# Altium integrated library Renesas Microcontroller H8S.IntLib: 670 symbols (part 21 of 70)
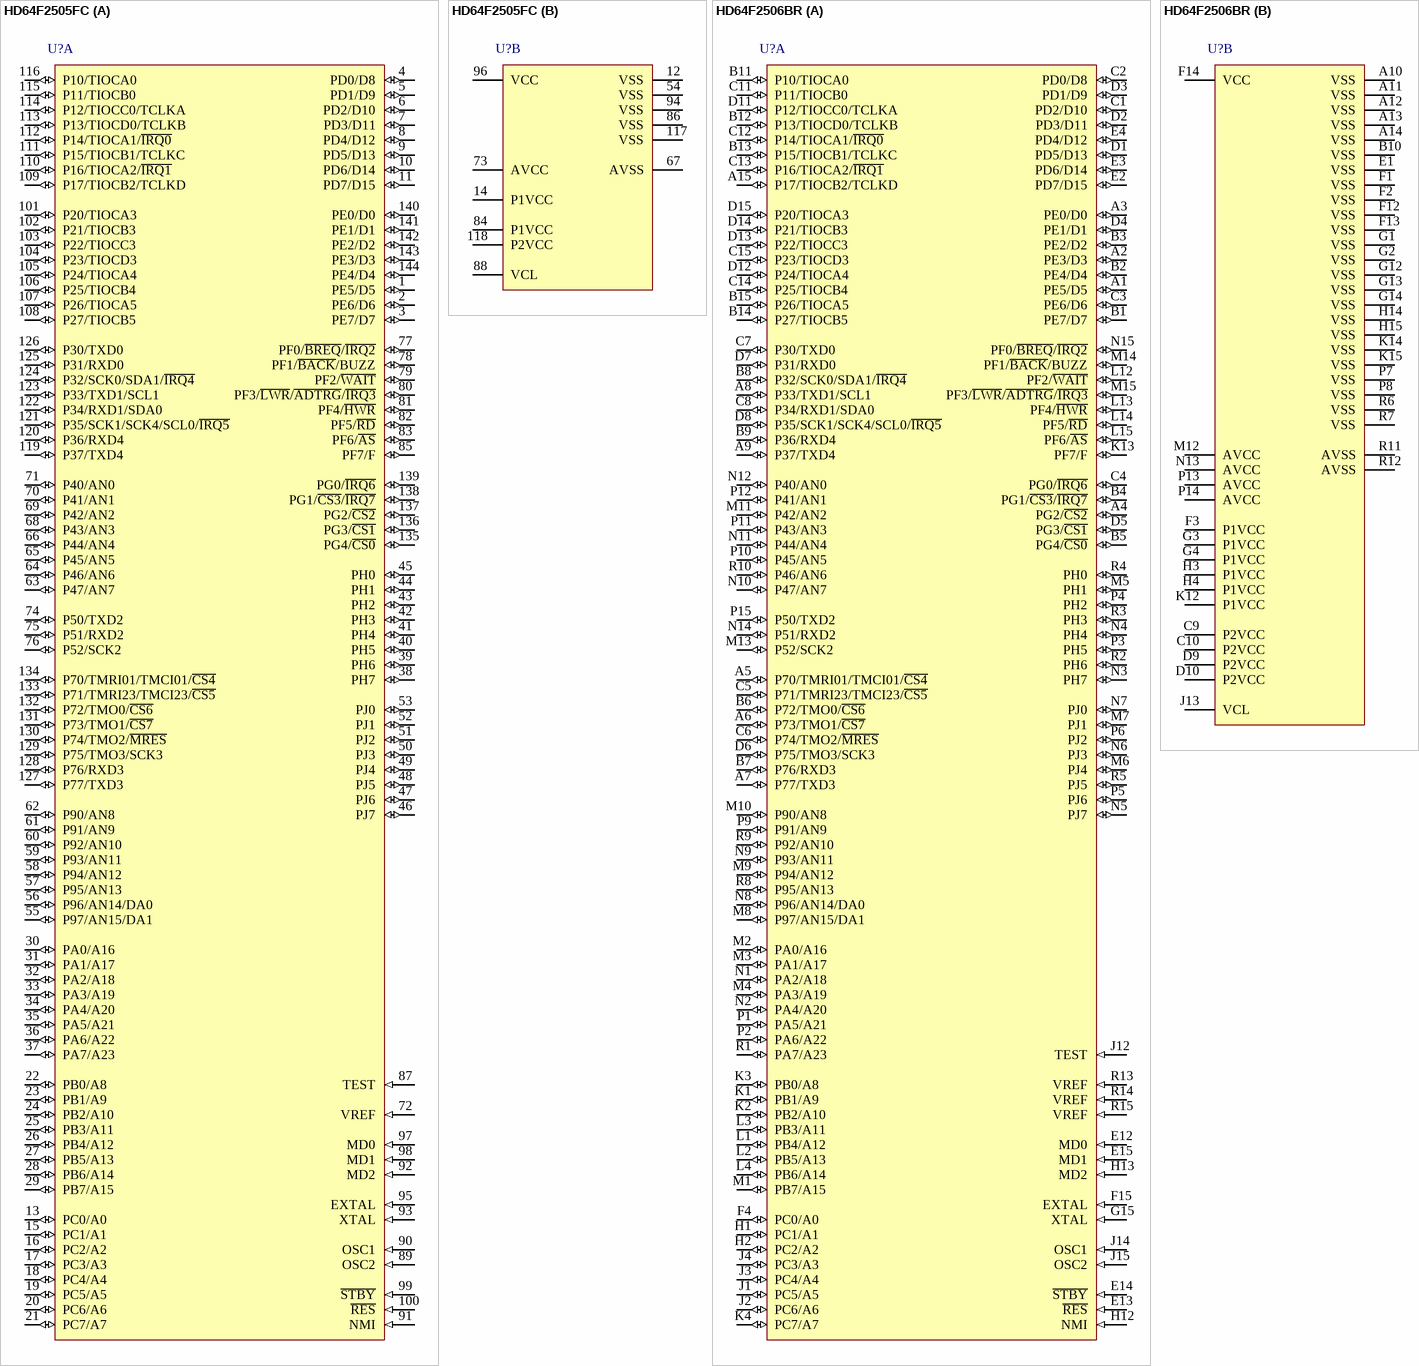
[diagram p255: symbols HD64F2505FC to HD64F2506BR]

## HD64F2505FC
designator U?
Flash memory H8S/2500 Series, 2506 Group MCU, 384K ROM, 32K RAM, FP-144J Pkg; Published: 28-Aug-2009; DatasheetVersion: Rev.6.00, Sep-2009; PackageVersion: Sep-2005; PackageReference: PRQP0144KB-A; Publisher: Altium Limited; PackageDescription: 144-Pin Plastic Quad Flat Pack, 20 x 20 x 2.7 mm Body, 0.5 mm Pitch; Code_JEITA: P-QFP144-20x20-0.50; ComponentLink1Description: Manufacturer Link; ComponentLink1URL: http://sg.renesas.com/fmwk.jsp?cnt=h8s_family_landing.jsp&fp=/products/mpumcu/h8s_family/; ComponentLink2Description: Datasheet; ComponentLink2URL: http://documentation.renesas.com/eng/products/mpumcu/rej09b0099_h8s2556.pdf; ComponentLink3Description: Packaging Specification; ComponentLink3URL: http://sg.renesas.com/media/products/common_info/package/pdf/ic/code/prqp0144kb_a.pdf
footprint PRQP0144KB-A_N (Shrink QFP, 144-Leads, Body 20x20mm, Pitch 0.5mm, IPC Medium Density)
footprint PRQP0144KB-A_L (Shrink QFP, 144-Leads, Body 20x20mm, Pitch 0.5mm, IPC High Density)
footprint PRQP0144KB-A_M (Shrink QFP, 144-Leads, Body 20x20mm, Pitch 0.5mm, IPC Low Density)
part A pins: 1 PE5/D5 (io), 2 PE6/D6 (io), 3 PE7/D7 (io), 4 PD0/D8 (io), 5 PD1/D9 (io), 6 PD2/D10 (io), 7 PD3/D11 (io), 8 PD4/D12 (io), 9 PD5/D13 (io), 10 PD6/D14 (io), 11 PD7/D15 (io), 13 PC0/A0 (io), 15 PC1/A1 (io), 16 PC2/A2 (io), 17 PC3/A3 (io), 18 PC4/A4 (io), 19 PC5/A5 (io), 20 PC6/A6 (io), 21 PC7/A7 (io), 22 PB0/A8 (io), 23 PB1/A9 (io), 24 PB2/A10 (io), 25 PB3/A11 (io), 26 PB4/A12 (io), 27 PB5/A13 (io), 28 PB6/A14 (io), 29 PB7/A15 (io), 30 PA0/A16 (io), 31 PA1/A17 (io), 32 PA2/A18 (io), 33 PA3/A19 (io), 34 PA4/A20 (io), 35 PA5/A21 (io), 36 PA6/A22 (io), 37 PA7/A23 (io), 38 PH7 (io), 39 PH6 (io), 40 PH5 (io), 41 PH4 (io), 42 PH3 (io), 43 PH2 (io), 44 PH1 (io), 45 PH0 (io), 46 PJ7 (io), 47 PJ6 (io), 48 PJ5 (io), 49 PJ4 (io), 50 PJ3 (io), 51 PJ2 (io), 52 PJ1 (io), 53 PJ0 (io), 55 P97/AN15/DA1 (io), 56 P96/AN14/DA0 (io), 57 P95/AN13 (io), 58 P94/AN12 (io), 59 P93/AN11 (io), 60 P92/AN10 (io), 61 P91/AN9 (io), 62 P90/AN8 (io), 63 P47/AN7 (io), 64 P46/AN6 (io), 65 P45/AN5 (io), 66 P44/AN4 (io), 68 P43/AN3 (io), 69 P42/AN2 (io), 70 P41/AN1 (io), 71 P40/AN0 (io), 72 VREF (in), 74 P50/TXD2 (io), 75 P51/RXD2 (io), 76 P52/SCK2 (io), 77 PF0/~{BREQ}/~{IRQ2} (io), 78 PF1/~{BACK}/BUZZ (io), 79 PF2/~{WAIT} (io), 80 PF3/~{LWR}/~{ADTRG}/~{IRQ3} (io), 81 PF4/~{HWR} (io), 82 PF5/~{RD} (io), 83 PF6/~{AS} (io), 85 PF7/F (io), 87 TEST (in), 89 OSC2 (in), 90 OSC1 (in), 91 NMI (in), 92 MD2 (in), 93 XTAL (in), 95 EXTAL (in), 97 MD0 (in), 98 MD1 (in), 99 ~{STBY} (in), 100 ~{RES} (in), 101 P20/TIOCA3 (io), 102 P21/TIOCB3 (io), 103 P22/TIOCC3 (io), 104 P23/TIOCD3 (io), 105 P24/TIOCA4 (io), 106 P25/TIOCB4 (io), 107 P26/TIOCA5 (io), 108 P27/TIOCB5 (io), 109 P17/TIOCB2/TCLKD (io), 110 P16/TIOCA2/~{IRQ1} (io), 111 P15/TIOCB1/TCLKC (io), 112 P14/TIOCA1/~{IRQ0} (io), 113 P13/TIOCD0/TCLKB (io), 114 P12/TIOCC0/TCLKA (io), 115 P11/TIOCB0 (io), 116 P10/TIOCA0 (io), 119 P37/TXD4 (io), 120 P36/RXD4 (io), 121 P35/SCK1/SCK4/SCL0/~{IRQ5} (io), 122 P34/RXD1/SDA0 (io), 123 P33/TXD1/SCL1 (io), 124 P32/SCK0/SDA1/~{IRQ4} (io), 125 P31/RXD0 (io), 126 P30/TXD0 (io), 127 P77/TXD3 (io), 128 P76/RXD3 (io), 129 P75/TMO3/SCK3 (io), 130 P74/TMO2/~{MRES} (io), 131 P73/TMO1/~{CS7} (io), 132 P72/TMO0/~{CS6} (io), 133 P71/TMRI23/TMCI23/~{CS5} (io), 134 P70/TMRI01/TMCI01/~{CS4} (io), 135 PG4/~{CS0} (io), 136 PG3/~{CS1} (io), 137 PG2/~{CS2} (io), 138 PG1/~{CS3}/~{IRQ7} (io), 139 PG0/~{IRQ6} (io), 140 PE0/D0 (io), 141 PE1/D1 (io), 142 PE2/D2 (io), 143 PE3/D3 (io), 144 PE4/D4 (io)
part B pins: 12 VSS (power), 14 P1VCC (power), 54 VSS (power), 67 AVSS (power), 73 AVCC (power), 84 P1VCC (power), 86 VSS (power), 88 VCL, 94 VSS (power), 96 VCC (power), 117 VSS (power), 118 P2VCC (power)

## HD64F2506BR
designator U?
Flash memory H8S/2500 Series, 2506 Group MCU, 512K ROM, 32K RAM, BP-176V Pkg; Published: 28-Aug-2009; DatasheetVersion: Rev.6.00, Sep-2009; PackageVersion: Apr-2006; PackageReference: PLBG0176GA-A; Publisher: Altium Limited; PackageDescription: 176-Ball Plastic Low Profile Fine-Pitch BGA, 13 x 13 mm Body, 0.8 mm Pitch; Code_JEITA: P-LFBGA176-13x13-0.80; ComponentLink1Description: Manufacturer Link; ComponentLink1URL: http://sg.renesas.com/fmwk.jsp?cnt=h8s_family_landing.jsp&fp=/products/mpumcu/h8s_family/; ComponentLink2Description: Datasheet; ComponentLink2URL: http://documentation.renesas.com/eng/products/mpumcu/rej09b0099_h8s2556.pdf; ComponentLink3Description: Packaging Specification; ComponentLink3URL: http://sg.renesas.com/media/products/common_info/package/pdf/ic/code/plbg0176ga_a.pdf
footprint PLBG0176GA-A (BGA, 176-Leads, Body 13x13mm, Pitch 0.8mm)
part A pins: A1 PE5/D5 (io), A2 PE3/D3 (io), A3 PE0/D0 (io), A4 PG2/~{CS2} (io), A5 P70/TMRI01/TMCI01/~{CS4} (io), A6 P73/TMO1/~{CS7} (io), A7 P77/TXD3 (io), A8 P33/TXD1/SCL1 (io), A9 P37/TXD4 (io), A15 P17/TIOCB2/TCLKD (io), B1 PE7/D7 (io), B2 PE4/D4 (io), B3 PE2/D2 (io), B4 PG1/~{CS3}/~{IRQ7} (io), B5 PG4/~{CS0} (io), B6 P72/TMO0/~{CS6} (io), B7 P76/RXD3 (io), B8 P32/SCK0/SDA1/~{IRQ4} (io), B9 P36/RXD4 (io), B11 P10/TIOCA0 (io), B12 P13/TIOCD0/TCLKB (io), B13 P15/TIOCB1/TCLKC (io), B14 P27/TIOCB5 (io), B15 P26/TIOCA5 (io), C1 PD2/D10 (io), C2 PD0/D8 (io), C3 PE6/D6 (io), C4 PG0/~{IRQ6} (io), C5 P71/TMRI23/TMCI23/~{CS5} (io), C6 P74/TMO2/~{MRES} (io), C7 P30/TXD0 (io), C8 P34/RXD1/SDA0 (io), C11 P11/TIOCB0 (io), C12 P14/TIOCA1/~{IRQ0} (io), C13 P16/TIOCA2/~{IRQ1} (io), C14 P25/TIOCB4 (io), C15 P23/TIOCD3 (io), D1 PD5/D13 (io), D2 PD3/D11 (io), D3 PD1/D9 (io), D4 PE1/D1 (io), D5 PG3/~{CS1} (io), D6 P75/TMO3/SCK3 (io), D7 P31/RXD0 (io), D8 P35/SCK1/SCK4/SCL0/~{IRQ5} (io), D11 P12/TIOCC0/TCLKA (io), D12 P24/TIOCA4 (io), D13 P22/TIOCC3 (io), D14 P21/TIOCB3 (io), D15 P20/TIOCA3 (io), E2 PD7/D15 (io), E3 PD6/D14 (io), E4 PD4/D12 (io), E12 MD0 (in), E13 ~{RES} (in), E14 ~{STBY} (in), E15 MD1 (in), F4 PC0/A0 (io), F15 EXTAL (in), G15 XTAL (in), H1 PC1/A1 (io), H2 PC2/A2 (io), H12 NMI (in), H13 MD2 (in), J1 PC5/A5 (io), J2 PC6/A6 (io), J3 PC4/A4 (io), J4 PC3/A3 (io), J12 TEST (in), J14 OSC1 (in), J15 OSC2 (in), K1 PB1/A9 (io), K2 PB2/A10 (io), K3 PB0/A8 (io), K4 PC7/A7 (io), K13 PF7/F (io), L1 PB4/A12 (io), L2 PB5/A13 (io), L3 PB3/A11 (io), L4 PB6/A14 (io), L12 PF2/~{WAIT} (io), L13 PF4/~{HWR} (io), L14 PF5/~{RD} (io), L15 PF6/~{AS} (io), M1 PB7/A15 (io), M2 PA0/A16 (io), M3 PA1/A17 (io), M4 PA3/A19 (io), M5 PH1 (io), M6 PJ4 (io), M7 PJ1 (io), M8 P97/AN15/DA1 (io), M9 P94/AN12 (io), M10 P90/AN8 (io), M11 P42/AN2 (io), M13 P52/SCK2 (io), M14 PF1/~{BACK}/BUZZ (io), M15 PF3/~{LWR}/~{ADTRG}/~{IRQ3} (io), N1 PA2/A18 (io), N2 PA4/A20 (io), N3 PH7 (io), N4 PH4 (io), N5 PJ7 (io), N6 PJ3 (io), N7 PJ0 (io), N8 P96/AN14/DA0 (io), N9 P93/AN11 (io), N10 P47/AN7 (io), N11 P44/AN4 (io), N12 P40/AN0 (io), N14 P51/RXD2 (io), N15 PF0/~{BREQ}/~{IRQ2} (io), P1 PA5/A21 (io), P2 PA6/A22 (io), P3 PH5 (io), P4 PH2 (io), P5 PJ6 (io), P6 PJ2 (io), P9 P91/AN9 (io), P10 P45/AN5 (io), P11 P43/AN3 (io), P12 P41/AN1 (io), P15 P50/TXD2 (io), R1 PA7/A23 (io), R2 PH6 (io), R3 PH3 (io), R4 PH0 (io), R5 PJ5 (io), R8 P95/AN13 (io), R9 P92/AN10 (io), R10 P46/AN6 (io), R13 VREF (in), R14 VREF (in), R15 VREF (in)
part B pins: A10 VSS (power), A11 VSS (power), A12 VSS (power), A13 VSS (power), A14 VSS (power), B10 VSS (power), C9 P2VCC (power), C10 P2VCC (power), D9 P2VCC (power), D10 P2VCC (power), E1 VSS (power), F1 VSS (power), F2 VSS (power), F3 P1VCC (power), F12 VSS (power), F13 VSS (power), F14 VCC (power), G1 VSS (power), G2 VSS (power), G3 P1VCC (power), G4 P1VCC (power), G12 VSS (power), G13 VSS (power), G14 VSS (power), H3 P1VCC (power), H4 P1VCC (power), H14 VSS (power), H15 VSS (power), J13 VCL, K12 P1VCC (power), K14 VSS (power), K15 VSS (power), M12 AVCC (power), N13 AVCC (power), P7 VSS (power), P8 VSS (power), P13 AVCC (power), P14 AVCC (power), R6 VSS (power), R7 VSS (power), R11 AVSS (power), R12 AVSS (power)

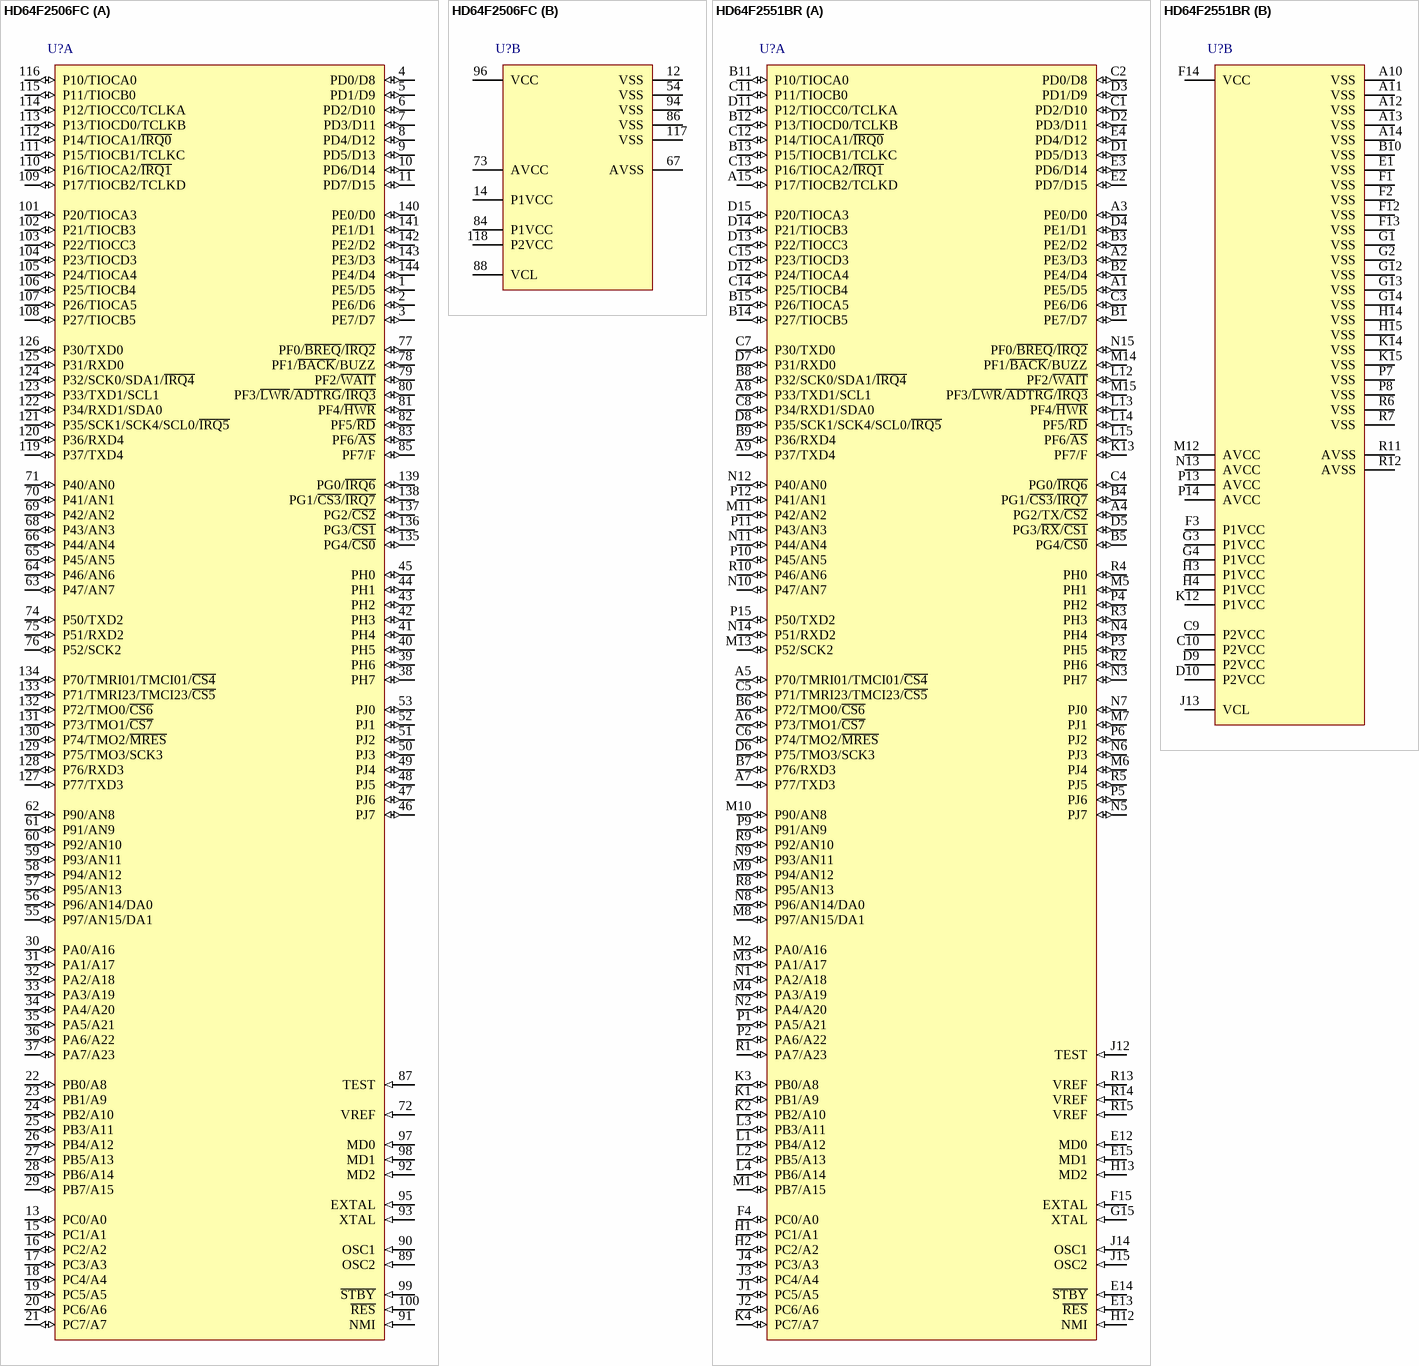
[diagram p72: symbols HD64F2506FC to HD64F2551BR]

## HD64F2506FC
designator U?
Flash memory H8S/2500 Series, 2506 Group MCU, 512K ROM, 32K RAM, FP-144J Pkg; Published: 28-Aug-2009; DatasheetVersion: Rev.6.00, Sep-2009; PackageVersion: Sep-2005; PackageReference: PRQP0144KB-A; Publisher: Altium Limited; PackageDescription: 144-Pin Plastic Quad Flat Pack, 20 x 20 x 2.7 mm Body, 0.5 mm Pitch; Code_JEITA: P-QFP144-20x20-0.50; ComponentLink1Description: Manufacturer Link; ComponentLink1URL: http://sg.renesas.com/fmwk.jsp?cnt=h8s_family_landing.jsp&fp=/products/mpumcu/h8s_family/; ComponentLink2Description: Datasheet; ComponentLink2URL: http://documentation.renesas.com/eng/products/mpumcu/rej09b0099_h8s2556.pdf; ComponentLink3Description: Packaging Specification; ComponentLink3URL: http://sg.renesas.com/media/products/common_info/package/pdf/ic/code/prqp0144kb_a.pdf
footprint PRQP0144KB-A_N (Shrink QFP, 144-Leads, Body 20x20mm, Pitch 0.5mm, IPC Medium Density)
footprint PRQP0144KB-A_L (Shrink QFP, 144-Leads, Body 20x20mm, Pitch 0.5mm, IPC High Density)
footprint PRQP0144KB-A_M (Shrink QFP, 144-Leads, Body 20x20mm, Pitch 0.5mm, IPC Low Density)
part A pins: 1 PE5/D5 (io), 2 PE6/D6 (io), 3 PE7/D7 (io), 4 PD0/D8 (io), 5 PD1/D9 (io), 6 PD2/D10 (io), 7 PD3/D11 (io), 8 PD4/D12 (io), 9 PD5/D13 (io), 10 PD6/D14 (io), 11 PD7/D15 (io), 13 PC0/A0 (io), 15 PC1/A1 (io), 16 PC2/A2 (io), 17 PC3/A3 (io), 18 PC4/A4 (io), 19 PC5/A5 (io), 20 PC6/A6 (io), 21 PC7/A7 (io), 22 PB0/A8 (io), 23 PB1/A9 (io), 24 PB2/A10 (io), 25 PB3/A11 (io), 26 PB4/A12 (io), 27 PB5/A13 (io), 28 PB6/A14 (io), 29 PB7/A15 (io), 30 PA0/A16 (io), 31 PA1/A17 (io), 32 PA2/A18 (io), 33 PA3/A19 (io), 34 PA4/A20 (io), 35 PA5/A21 (io), 36 PA6/A22 (io), 37 PA7/A23 (io), 38 PH7 (io), 39 PH6 (io), 40 PH5 (io), 41 PH4 (io), 42 PH3 (io), 43 PH2 (io), 44 PH1 (io), 45 PH0 (io), 46 PJ7 (io), 47 PJ6 (io), 48 PJ5 (io), 49 PJ4 (io), 50 PJ3 (io), 51 PJ2 (io), 52 PJ1 (io), 53 PJ0 (io), 55 P97/AN15/DA1 (io), 56 P96/AN14/DA0 (io), 57 P95/AN13 (io), 58 P94/AN12 (io), 59 P93/AN11 (io), 60 P92/AN10 (io), 61 P91/AN9 (io), 62 P90/AN8 (io), 63 P47/AN7 (io), 64 P46/AN6 (io), 65 P45/AN5 (io), 66 P44/AN4 (io), 68 P43/AN3 (io), 69 P42/AN2 (io), 70 P41/AN1 (io), 71 P40/AN0 (io), 72 VREF (in), 74 P50/TXD2 (io), 75 P51/RXD2 (io), 76 P52/SCK2 (io), 77 PF0/~{BREQ}/~{IRQ2} (io), 78 PF1/~{BACK}/BUZZ (io), 79 PF2/~{WAIT} (io), 80 PF3/~{LWR}/~{ADTRG}/~{IRQ3} (io), 81 PF4/~{HWR} (io), 82 PF5/~{RD} (io), 83 PF6/~{AS} (io), 85 PF7/F (io), 87 TEST (in), 89 OSC2 (in), 90 OSC1 (in), 91 NMI (in), 92 MD2 (in), 93 XTAL (in), 95 EXTAL (in), 97 MD0 (in), 98 MD1 (in), 99 ~{STBY} (in), 100 ~{RES} (in), 101 P20/TIOCA3 (io), 102 P21/TIOCB3 (io), 103 P22/TIOCC3 (io), 104 P23/TIOCD3 (io), 105 P24/TIOCA4 (io), 106 P25/TIOCB4 (io), 107 P26/TIOCA5 (io), 108 P27/TIOCB5 (io), 109 P17/TIOCB2/TCLKD (io), 110 P16/TIOCA2/~{IRQ1} (io), 111 P15/TIOCB1/TCLKC (io), 112 P14/TIOCA1/~{IRQ0} (io), 113 P13/TIOCD0/TCLKB (io), 114 P12/TIOCC0/TCLKA (io), 115 P11/TIOCB0 (io), 116 P10/TIOCA0 (io), 119 P37/TXD4 (io), 120 P36/RXD4 (io), 121 P35/SCK1/SCK4/SCL0/~{IRQ5} (io), 122 P34/RXD1/SDA0 (io), 123 P33/TXD1/SCL1 (io), 124 P32/SCK0/SDA1/~{IRQ4} (io), 125 P31/RXD0 (io), 126 P30/TXD0 (io), 127 P77/TXD3 (io), 128 P76/RXD3 (io), 129 P75/TMO3/SCK3 (io), 130 P74/TMO2/~{MRES} (io), 131 P73/TMO1/~{CS7} (io), 132 P72/TMO0/~{CS6} (io), 133 P71/TMRI23/TMCI23/~{CS5} (io), 134 P70/TMRI01/TMCI01/~{CS4} (io), 135 PG4/~{CS0} (io), 136 PG3/~{CS1} (io), 137 PG2/~{CS2} (io), 138 PG1/~{CS3}/~{IRQ7} (io), 139 PG0/~{IRQ6} (io), 140 PE0/D0 (io), 141 PE1/D1 (io), 142 PE2/D2 (io), 143 PE3/D3 (io), 144 PE4/D4 (io)
part B pins: 12 VSS (power), 14 P1VCC (power), 54 VSS (power), 67 AVSS (power), 73 AVCC (power), 84 P1VCC (power), 86 VSS (power), 88 VCL, 94 VSS (power), 96 VCC (power), 117 VSS (power), 118 P2VCC (power)

## HD64F2551BR
designator U?
Flash memory H8S/2500 Series, 2552 Group MCU, 384K ROM, 24K RAM, BP-176V Pkg; Published: 28-Aug-2009; DatasheetVersion: Rev.6.00, Sep-2009; PackageVersion: Apr-2006; PackageReference: PLBG0176GA-A; Publisher: Altium Limited; PackageDescription: 176-Ball Plastic Low Profile Fine-Pitch BGA, 13 x 13 mm Body, 0.8 mm Pitch; Code_JEITA: P-LFBGA176-13x13-0.80; ComponentLink1Description: Manufacturer Link; ComponentLink1URL: http://sg.renesas.com/fmwk.jsp?cnt=h8s_family_landing.jsp&fp=/products/mpumcu/h8s_family/; ComponentLink2Description: Datasheet; ComponentLink2URL: http://documentation.renesas.com/eng/products/mpumcu/rej09b0099_h8s2556.pdf; ComponentLink3Description: Packaging Specification; ComponentLink3URL: http://sg.renesas.com/media/products/common_info/package/pdf/ic/code/plbg0176ga_a.pdf
footprint PLBG0176GA-A (BGA, 176-Leads, Body 13x13mm, Pitch 0.8mm)
part A pins: A1 PE5/D5 (io), A2 PE3/D3 (io), A3 PE0/D0 (io), A4 PG2/TX/~{CS2} (io), A5 P70/TMRI01/TMCI01/~{CS4} (io), A6 P73/TMO1/~{CS7} (io), A7 P77/TXD3 (io), A8 P33/TXD1/SCL1 (io), A9 P37/TXD4 (io), A15 P17/TIOCB2/TCLKD (io), B1 PE7/D7 (io), B2 PE4/D4 (io), B3 PE2/D2 (io), B4 PG1/~{CS3}/~{IRQ7} (io), B5 PG4/~{CS0} (io), B6 P72/TMO0/~{CS6} (io), B7 P76/RXD3 (io), B8 P32/SCK0/SDA1/~{IRQ4} (io), B9 P36/RXD4 (io), B11 P10/TIOCA0 (io), B12 P13/TIOCD0/TCLKB (io), B13 P15/TIOCB1/TCLKC (io), B14 P27/TIOCB5 (io), B15 P26/TIOCA5 (io), C1 PD2/D10 (io), C2 PD0/D8 (io), C3 PE6/D6 (io), C4 PG0/~{IRQ6} (io), C5 P71/TMRI23/TMCI23/~{CS5} (io), C6 P74/TMO2/~{MRES} (io), C7 P30/TXD0 (io), C8 P34/RXD1/SDA0 (io), C11 P11/TIOCB0 (io), C12 P14/TIOCA1/~{IRQ0} (io), C13 P16/TIOCA2/~{IRQ1} (io), C14 P25/TIOCB4 (io), C15 P23/TIOCD3 (io), D1 PD5/D13 (io), D2 PD3/D11 (io), D3 PD1/D9 (io), D4 PE1/D1 (io), D5 PG3/~{RX}/~{CS1} (io), D6 P75/TMO3/SCK3 (io), D7 P31/RXD0 (io), D8 P35/SCK1/SCK4/SCL0/~{IRQ5} (io), D11 P12/TIOCC0/TCLKA (io), D12 P24/TIOCA4 (io), D13 P22/TIOCC3 (io), D14 P21/TIOCB3 (io), D15 P20/TIOCA3 (io), E2 PD7/D15 (io), E3 PD6/D14 (io), E4 PD4/D12 (io), E12 MD0 (in), E13 ~{RES} (in), E14 ~{STBY} (in), E15 MD1 (in), F4 PC0/A0 (io), F15 EXTAL (in), G15 XTAL (in), H1 PC1/A1 (io), H2 PC2/A2 (io), H12 NMI (in), H13 MD2 (in), J1 PC5/A5 (io), J2 PC6/A6 (io), J3 PC4/A4 (io), J4 PC3/A3 (io), J12 TEST (in), J14 OSC1 (in), J15 OSC2 (in), K1 PB1/A9 (io), K2 PB2/A10 (io), K3 PB0/A8 (io), K4 PC7/A7 (io), K13 PF7/F (io), L1 PB4/A12 (io), L2 PB5/A13 (io), L3 PB3/A11 (io), L4 PB6/A14 (io), L12 PF2/~{WAIT} (io), L13 PF4/~{HWR} (io), L14 PF5/~{RD} (io), L15 PF6/~{AS} (io), M1 PB7/A15 (io), M2 PA0/A16 (io), M3 PA1/A17 (io), M4 PA3/A19 (io), M5 PH1 (io), M6 PJ4 (io), M7 PJ1 (io), M8 P97/AN15/DA1 (io), M9 P94/AN12 (io), M10 P90/AN8 (io), M11 P42/AN2 (io), M13 P52/SCK2 (io), M14 PF1/~{BACK}/BUZZ (io), M15 PF3/~{LWR}/~{ADTRG}/~{IRQ3} (io), N1 PA2/A18 (io), N2 PA4/A20 (io), N3 PH7 (io), N4 PH4 (io), N5 PJ7 (io), N6 PJ3 (io), N7 PJ0 (io), N8 P96/AN14/DA0 (io), N9 P93/AN11 (io), N10 P47/AN7 (io), N11 P44/AN4 (io), N12 P40/AN0 (io), N14 P51/RXD2 (io), N15 PF0/~{BREQ}/~{IRQ2} (io), P1 PA5/A21 (io), P2 PA6/A22 (io), P3 PH5 (io), P4 PH2 (io), P5 PJ6 (io), P6 PJ2 (io), P9 P91/AN9 (io), P10 P45/AN5 (io), P11 P43/AN3 (io), P12 P41/AN1 (io), P15 P50/TXD2 (io), R1 PA7/A23 (io), R2 PH6 (io), R3 PH3 (io), R4 PH0 (io), R5 PJ5 (io), R8 P95/AN13 (io), R9 P92/AN10 (io), R10 P46/AN6 (io), R13 VREF (in), R14 VREF (in), R15 VREF (in)
part B pins: A10 VSS (power), A11 VSS (power), A12 VSS (power), A13 VSS (power), A14 VSS (power), B10 VSS (power), C9 P2VCC (power), C10 P2VCC (power), D9 P2VCC (power), D10 P2VCC (power), E1 VSS (power), F1 VSS (power), F2 VSS (power), F3 P1VCC (power), F12 VSS (power), F13 VSS (power), F14 VCC (power), G1 VSS (power), G2 VSS (power), G3 P1VCC (power), G4 P1VCC (power), G12 VSS (power), G13 VSS (power), G14 VSS (power), H3 P1VCC (power), H4 P1VCC (power), H14 VSS (power), H15 VSS (power), J13 VCL, K12 P1VCC (power), K14 VSS (power), K15 VSS (power), M12 AVCC (power), N13 AVCC (power), P7 VSS (power), P8 VSS (power), P13 AVCC (power), P14 AVCC (power), R6 VSS (power), R7 VSS (power), R11 AVSS (power), R12 AVSS (power)

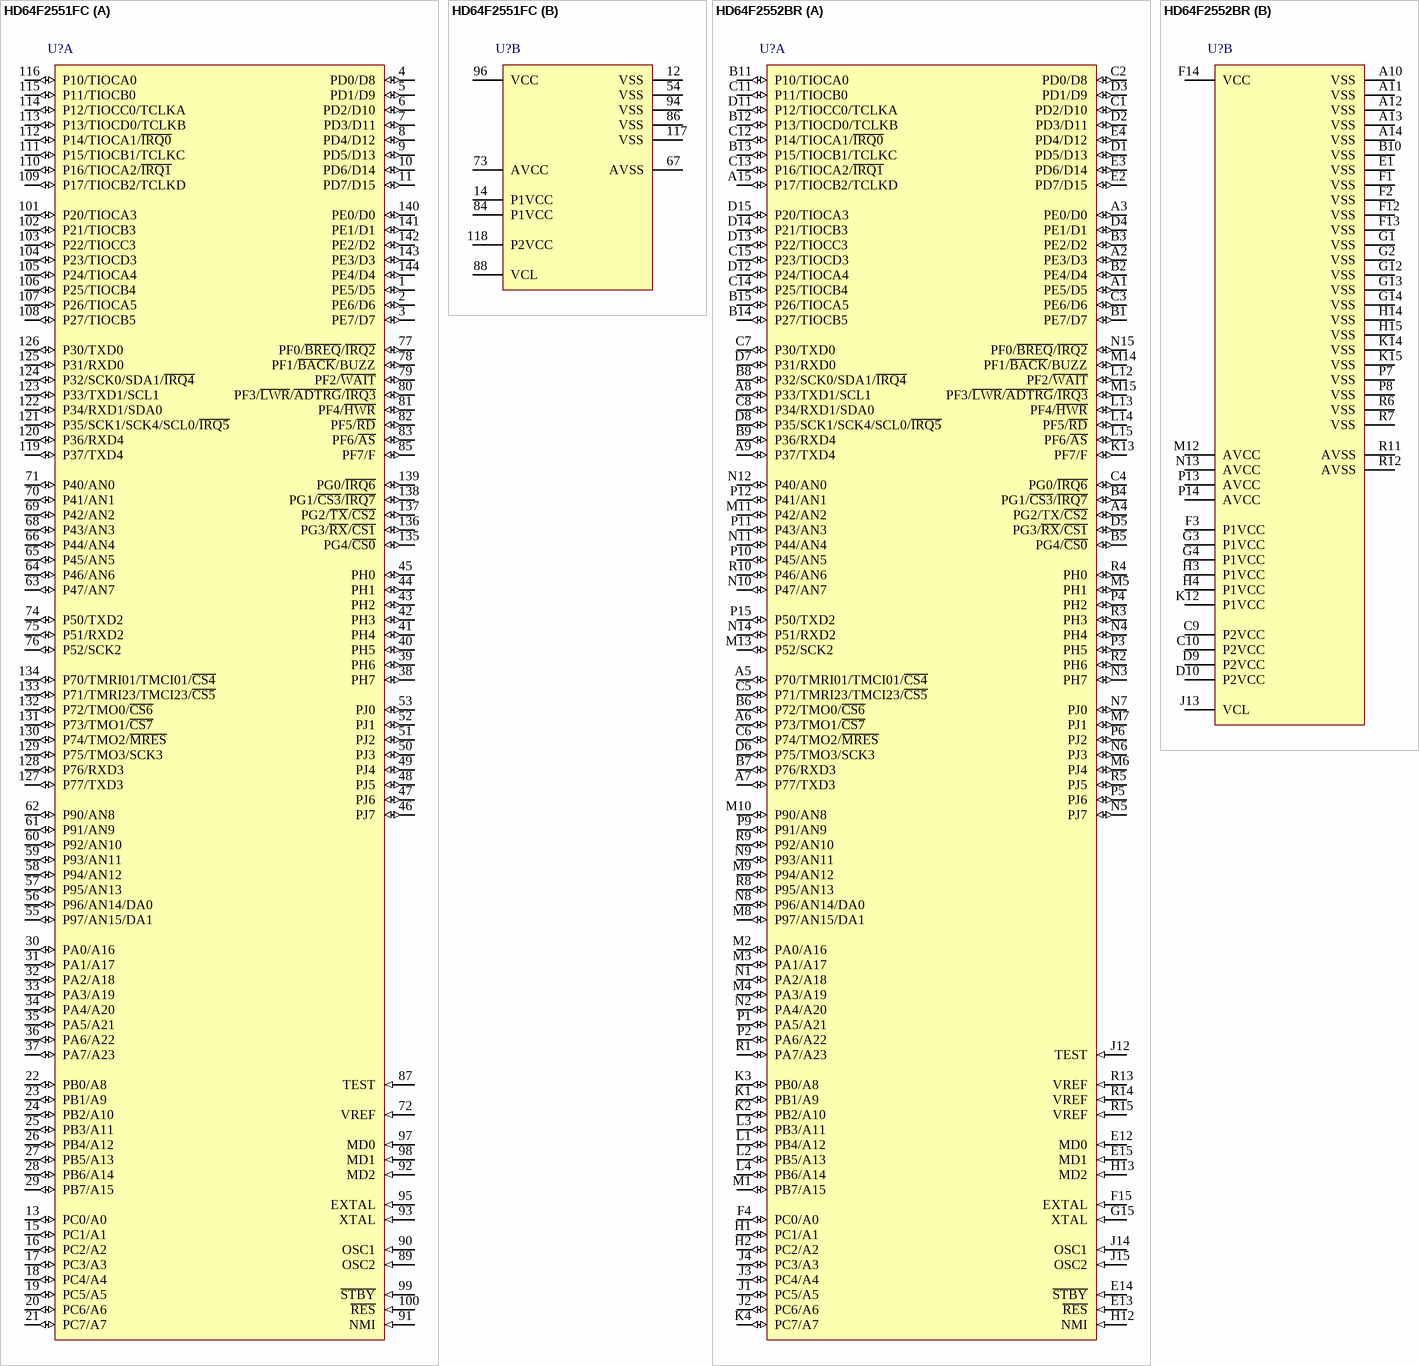
[diagram p73: symbols HD64F2551FC to HD64F2552BR]

## HD64F2551FC
designator U?
Flash memory H8S/2500 Series, 2552 Group MCU, 384K ROM, 24K RAM, FP-144J Pkg; Published: 28-Aug-2009; DatasheetVersion: Rev.6.00, Sep-2009; PackageVersion: Sep-2005; PackageReference: PRQP0144KB-A; Publisher: Altium Limited; PackageDescription: 144-Pin Plastic Quad Flat Pack, 20 x 20 x 2.7 mm Body, 0.5 mm Pitch; Code_JEITA: P-QFP144-20x20-0.50; ComponentLink1Description: Manufacturer Link; ComponentLink1URL: http://sg.renesas.com/fmwk.jsp?cnt=h8s_family_landing.jsp&fp=/products/mpumcu/h8s_family/; ComponentLink2Description: Datasheet; ComponentLink2URL: http://documentation.renesas.com/eng/products/mpumcu/rej09b0099_h8s2556.pdf; ComponentLink3Description: Packaging Specification; ComponentLink3URL: http://sg.renesas.com/media/products/common_info/package/pdf/ic/code/prqp0144kb_a.pdf
footprint PRQP0144KB-A_N (Shrink QFP, 144-Leads, Body 20x20mm, Pitch 0.5mm, IPC Medium Density)
footprint PRQP0144KB-A_L (Shrink QFP, 144-Leads, Body 20x20mm, Pitch 0.5mm, IPC High Density)
footprint PRQP0144KB-A_M (Shrink QFP, 144-Leads, Body 20x20mm, Pitch 0.5mm, IPC Low Density)
part A pins: 1 PE5/D5 (io), 2 PE6/D6 (io), 3 PE7/D7 (io), 4 PD0/D8 (io), 5 PD1/D9 (io), 6 PD2/D10 (io), 7 PD3/D11 (io), 8 PD4/D12 (io), 9 PD5/D13 (io), 10 PD6/D14 (io), 11 PD7/D15 (io), 13 PC0/A0 (io), 15 PC1/A1 (io), 16 PC2/A2 (io), 17 PC3/A3 (io), 18 PC4/A4 (io), 19 PC5/A5 (io), 20 PC6/A6 (io), 21 PC7/A7 (io), 22 PB0/A8 (io), 23 PB1/A9 (io), 24 PB2/A10 (io), 25 PB3/A11 (io), 26 PB4/A12 (io), 27 PB5/A13 (io), 28 PB6/A14 (io), 29 PB7/A15 (io), 30 PA0/A16 (io), 31 PA1/A17 (io), 32 PA2/A18 (io), 33 PA3/A19 (io), 34 PA4/A20 (io), 35 PA5/A21 (io), 36 PA6/A22 (io), 37 PA7/A23 (io), 38 PH7 (io), 39 PH6 (io), 40 PH5 (io), 41 PH4 (io), 42 PH3 (io), 43 PH2 (io), 44 PH1 (io), 45 PH0 (io), 46 PJ7 (io), 47 PJ6 (io), 48 PJ5 (io), 49 PJ4 (io), 50 PJ3 (io), 51 PJ2 (io), 52 PJ1 (io), 53 PJ0 (io), 55 P97/AN15/DA1 (io), 56 P96/AN14/DA0 (io), 57 P95/AN13 (io), 58 P94/AN12 (io), 59 P93/AN11 (io), 60 P92/AN10 (io), 61 P91/AN9 (io), 62 P90/AN8 (io), 63 P47/AN7 (io), 64 P46/AN6 (io), 65 P45/AN5 (io), 66 P44/AN4 (io), 68 P43/AN3 (io), 69 P42/AN2 (io), 70 P41/AN1 (io), 71 P40/AN0 (io), 72 VREF (in), 74 P50/TXD2 (io), 75 P51/RXD2 (io), 76 P52/SCK2 (io), 77 PF0/~{BREQ}/~{IRQ2} (io), 78 PF1/~{BACK}/BUZZ (io), 79 PF2/~{WAIT} (io), 80 PF3/~{LWR}/~{ADTRG}/~{IRQ3} (io), 81 PF4/~{HWR} (io), 82 PF5/~{RD} (io), 83 PF6/~{AS} (io), 85 PF7/F (io), 87 TEST (in), 89 OSC2 (in), 90 OSC1 (in), 91 NMI (in), 92 MD2 (in), 93 XTAL (in), 95 EXTAL (in), 97 MD0 (in), 98 MD1 (in), 99 ~{STBY} (in), 100 ~{RES} (in), 101 P20/TIOCA3 (io), 102 P21/TIOCB3 (io), 103 P22/TIOCC3 (io), 104 P23/TIOCD3 (io), 105 P24/TIOCA4 (io), 106 P25/TIOCB4 (io), 107 P26/TIOCA5 (io), 108 P27/TIOCB5 (io), 109 P17/TIOCB2/TCLKD (io), 110 P16/TIOCA2/~{IRQ1} (io), 111 P15/TIOCB1/TCLKC (io), 112 P14/TIOCA1/~{IRQ0} (io), 113 P13/TIOCD0/TCLKB (io), 114 P12/TIOCC0/TCLKA (io), 115 P11/TIOCB0 (io), 116 P10/TIOCA0 (io), 119 P37/TXD4 (io), 120 P36/RXD4 (io), 121 P35/SCK1/SCK4/SCL0/~{IRQ5} (io), 122 P34/RXD1/SDA0 (io), 123 P33/TXD1/SCL1 (io), 124 P32/SCK0/SDA1/~{IRQ4} (io), 125 P31/RXD0 (io), 126 P30/TXD0 (io), 127 P77/TXD3 (io), 128 P76/RXD3 (io), 129 P75/TMO3/SCK3 (io), 130 P74/TMO2/~{MRES} (io), 131 P73/TMO1/~{CS7} (io), 132 P72/TMO0/~{CS6} (io), 133 P71/TMRI23/TMCI23/~{CS5} (io), 134 P70/TMRI01/TMCI01/~{CS4} (io), 135 PG4/~{CS0} (io), 136 PG3/~{RX}/~{CS1} (io), 137 PG2/~{TX}/~{CS2} (io), 138 PG1/~{CS3}/~{IRQ7} (io), 139 PG0/~{IRQ6} (io), 140 PE0/D0 (io), 141 PE1/D1 (io), 142 PE2/D2 (io), 143 PE3/D3 (io), 144 PE4/D4 (io)
part B pins: 12 VSS (power), 14 P1VCC (power), 54 VSS (power), 67 AVSS (power), 73 AVCC (power), 84 P1VCC (power), 86 VSS (power), 88 VCL, 94 VSS (power), 96 VCC (power), 117 VSS (power), 118 P2VCC (power)

## HD64F2552BR
designator U?
Flash memory H8S/2500 Series, 2552 Group MCU, 512K ROM, 32K RAM, BP-176V Pkg; Published: 28-Aug-2009; DatasheetVersion: Rev.6.00, Sep-2009; PackageVersion: Apr-2006; PackageReference: PLBG0176GA-A; Publisher: Altium Limited; PackageDescription: 176-Ball Plastic Low Profile Fine-Pitch BGA, 13 x 13 mm Body, 0.8 mm Pitch; Code_JEITA: P-LFBGA176-13x13-0.80; ComponentLink1Description: Manufacturer Link; ComponentLink1URL: http://sg.renesas.com/fmwk.jsp?cnt=h8s_family_landing.jsp&fp=/products/mpumcu/h8s_family/; ComponentLink2Description: Datasheet; ComponentLink2URL: http://documentation.renesas.com/eng/products/mpumcu/rej09b0099_h8s2556.pdf; ComponentLink3Description: Packaging Specification; ComponentLink3URL: http://sg.renesas.com/media/products/common_info/package/pdf/ic/code/plbg0176ga_a.pdf
footprint PLBG0176GA-A (BGA, 176-Leads, Body 13x13mm, Pitch 0.8mm)
part A pins: A1 PE5/D5 (io), A2 PE3/D3 (io), A3 PE0/D0 (io), A4 PG2/TX/~{CS2} (io), A5 P70/TMRI01/TMCI01/~{CS4} (io), A6 P73/TMO1/~{CS7} (io), A7 P77/TXD3 (io), A8 P33/TXD1/SCL1 (io), A9 P37/TXD4 (io), A15 P17/TIOCB2/TCLKD (io), B1 PE7/D7 (io), B2 PE4/D4 (io), B3 PE2/D2 (io), B4 PG1/~{CS3}/~{IRQ7} (io), B5 PG4/~{CS0} (io), B6 P72/TMO0/~{CS6} (io), B7 P76/RXD3 (io), B8 P32/SCK0/SDA1/~{IRQ4} (io), B9 P36/RXD4 (io), B11 P10/TIOCA0 (io), B12 P13/TIOCD0/TCLKB (io), B13 P15/TIOCB1/TCLKC (io), B14 P27/TIOCB5 (io), B15 P26/TIOCA5 (io), C1 PD2/D10 (io), C2 PD0/D8 (io), C3 PE6/D6 (io), C4 PG0/~{IRQ6} (io), C5 P71/TMRI23/TMCI23/~{CS5} (io), C6 P74/TMO2/~{MRES} (io), C7 P30/TXD0 (io), C8 P34/RXD1/SDA0 (io), C11 P11/TIOCB0 (io), C12 P14/TIOCA1/~{IRQ0} (io), C13 P16/TIOCA2/~{IRQ1} (io), C14 P25/TIOCB4 (io), C15 P23/TIOCD3 (io), D1 PD5/D13 (io), D2 PD3/D11 (io), D3 PD1/D9 (io), D4 PE1/D1 (io), D5 PG3/~{RX}/~{CS1} (io), D6 P75/TMO3/SCK3 (io), D7 P31/RXD0 (io), D8 P35/SCK1/SCK4/SCL0/~{IRQ5} (io), D11 P12/TIOCC0/TCLKA (io), D12 P24/TIOCA4 (io), D13 P22/TIOCC3 (io), D14 P21/TIOCB3 (io), D15 P20/TIOCA3 (io), E2 PD7/D15 (io), E3 PD6/D14 (io), E4 PD4/D12 (io), E12 MD0 (in), E13 ~{RES} (in), E14 ~{STBY} (in), E15 MD1 (in), F4 PC0/A0 (io), F15 EXTAL (in), G15 XTAL (in), H1 PC1/A1 (io), H2 PC2/A2 (io), H12 NMI (in), H13 MD2 (in), J1 PC5/A5 (io), J2 PC6/A6 (io), J3 PC4/A4 (io), J4 PC3/A3 (io), J12 TEST (in), J14 OSC1 (in), J15 OSC2 (in), K1 PB1/A9 (io), K2 PB2/A10 (io), K3 PB0/A8 (io), K4 PC7/A7 (io), K13 PF7/F (io), L1 PB4/A12 (io), L2 PB5/A13 (io), L3 PB3/A11 (io), L4 PB6/A14 (io), L12 PF2/~{WAIT} (io), L13 PF4/~{HWR} (io), L14 PF5/~{RD} (io), L15 PF6/~{AS} (io), M1 PB7/A15 (io), M2 PA0/A16 (io), M3 PA1/A17 (io), M4 PA3/A19 (io), M5 PH1 (io), M6 PJ4 (io), M7 PJ1 (io), M8 P97/AN15/DA1 (io), M9 P94/AN12 (io), M10 P90/AN8 (io), M11 P42/AN2 (io), M13 P52/SCK2 (io), M14 PF1/~{BACK}/BUZZ (io), M15 PF3/~{LWR}/~{ADTRG}/~{IRQ3} (io), N1 PA2/A18 (io), N2 PA4/A20 (io), N3 PH7 (io), N4 PH4 (io), N5 PJ7 (io), N6 PJ3 (io), N7 PJ0 (io), N8 P96/AN14/DA0 (io), N9 P93/AN11 (io), N10 P47/AN7 (io), N11 P44/AN4 (io), N12 P40/AN0 (io), N14 P51/RXD2 (io), N15 PF0/~{BREQ}/~{IRQ2} (io), P1 PA5/A21 (io), P2 PA6/A22 (io), P3 PH5 (io), P4 PH2 (io), P5 PJ6 (io), P6 PJ2 (io), P9 P91/AN9 (io), P10 P45/AN5 (io), P11 P43/AN3 (io), P12 P41/AN1 (io), P15 P50/TXD2 (io), R1 PA7/A23 (io), R2 PH6 (io), R3 PH3 (io), R4 PH0 (io), R5 PJ5 (io), R8 P95/AN13 (io), R9 P92/AN10 (io), R10 P46/AN6 (io), R13 VREF (in), R14 VREF (in), R15 VREF (in)
part B pins: A10 VSS (power), A11 VSS (power), A12 VSS (power), A13 VSS (power), A14 VSS (power), B10 VSS (power), C9 P2VCC (power), C10 P2VCC (power), D9 P2VCC (power), D10 P2VCC (power), E1 VSS (power), F1 VSS (power), F2 VSS (power), F3 P1VCC (power), F12 VSS (power), F13 VSS (power), F14 VCC (power), G1 VSS (power), G2 VSS (power), G3 P1VCC (power), G4 P1VCC (power), G12 VSS (power), G13 VSS (power), G14 VSS (power), H3 P1VCC (power), H4 P1VCC (power), H14 VSS (power), H15 VSS (power), J13 VCL, K12 P1VCC (power), K14 VSS (power), K15 VSS (power), M12 AVCC (power), N13 AVCC (power), P7 VSS (power), P8 VSS (power), P13 AVCC (power), P14 AVCC (power), R6 VSS (power), R7 VSS (power), R11 AVSS (power), R12 AVSS (power)

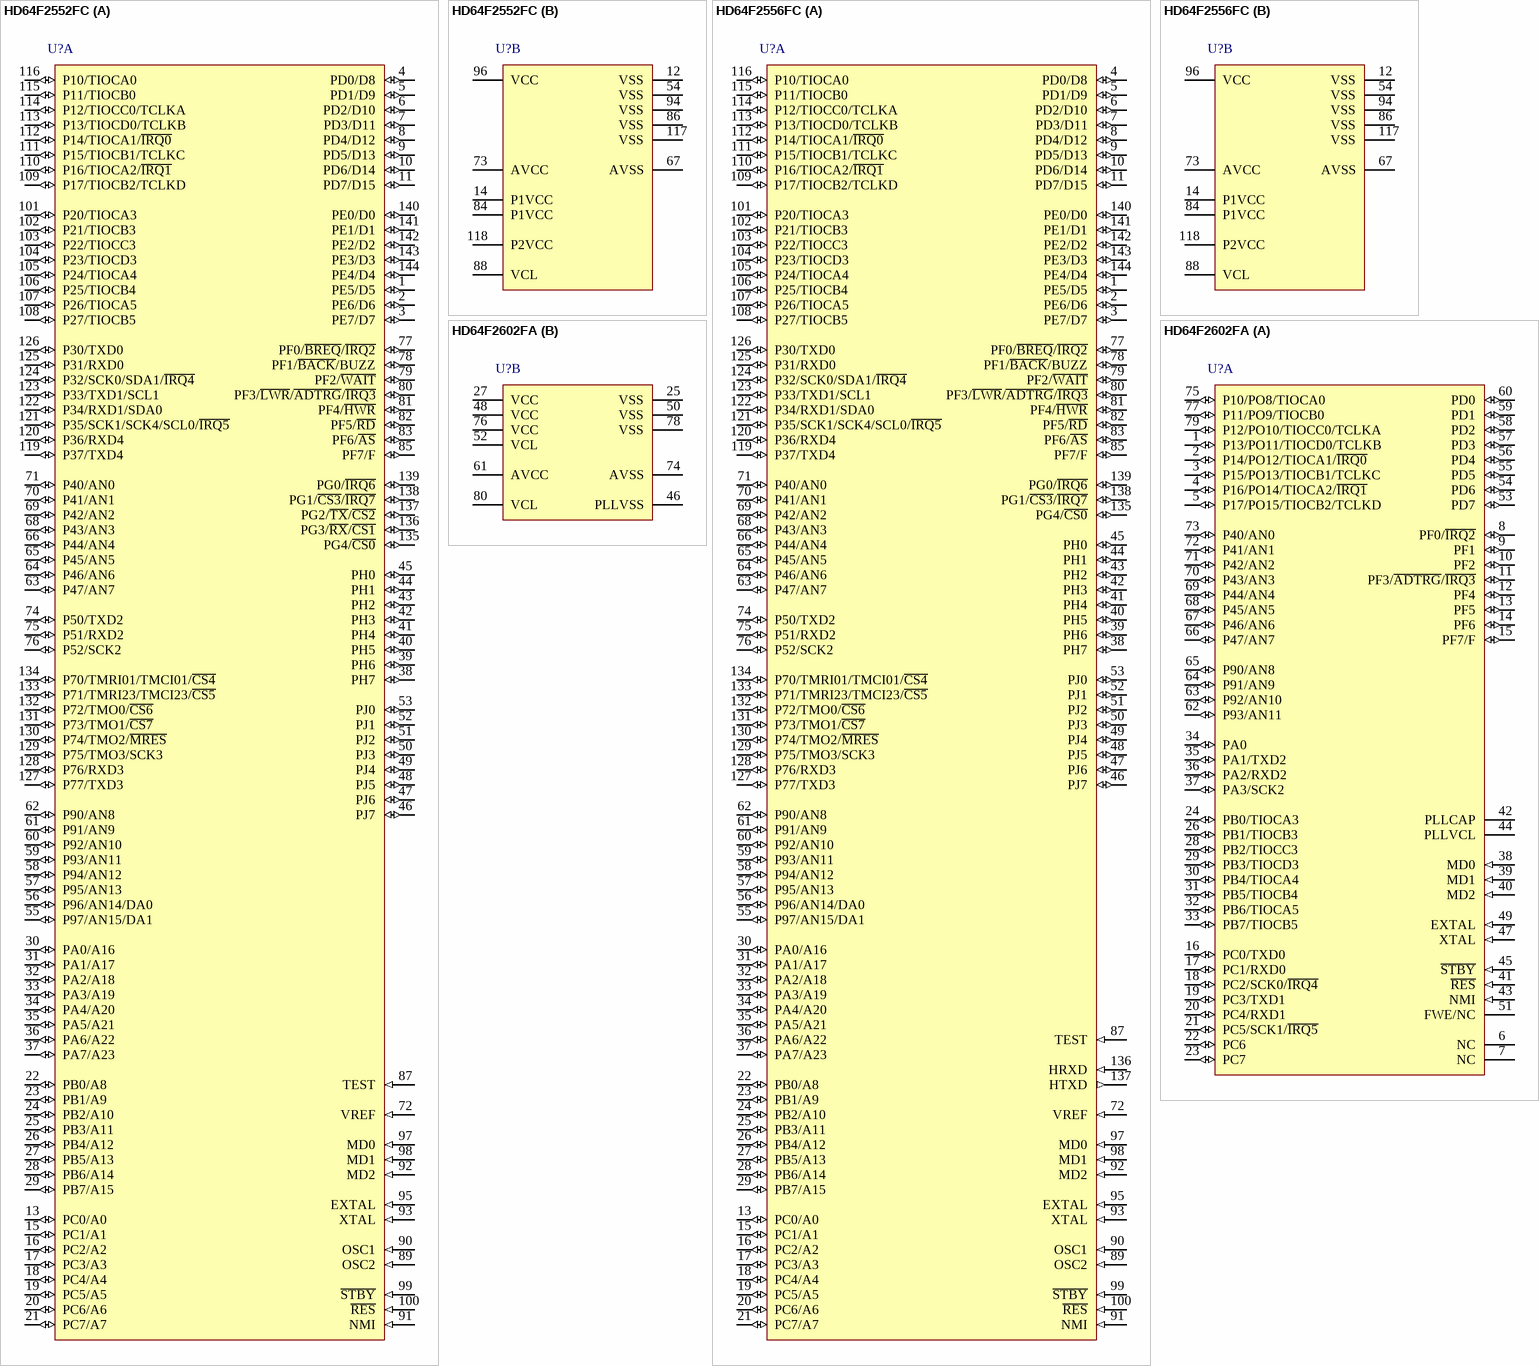
[diagram p74: symbols HD64F2552FC to HD64F2602FA]

## HD64F2552FC
designator U?
Flash memory H8S/2500 Series, 2552 Group MCU, 512K ROM, 32K RAM, FP-144J Pkg; Published: 28-Aug-2009; DatasheetVersion: Rev.6.00, Sep-2009; PackageVersion: Sep-2005; PackageReference: PRQP0144KB-A; Publisher: Altium Limited; PackageDescription: 144-Pin Plastic Quad Flat Pack, 20 x 20 x 2.7 mm Body, 0.5 mm Pitch; Code_JEITA: P-QFP144-20x20-0.50; ComponentLink1Description: Manufacturer Link; ComponentLink1URL: http://sg.renesas.com/fmwk.jsp?cnt=h8s_family_landing.jsp&fp=/products/mpumcu/h8s_family/; ComponentLink2Description: Datasheet; ComponentLink2URL: http://documentation.renesas.com/eng/products/mpumcu/rej09b0099_h8s2556.pdf; ComponentLink3Description: Packaging Specification; ComponentLink3URL: http://sg.renesas.com/media/products/common_info/package/pdf/ic/code/prqp0144kb_a.pdf
footprint PRQP0144KB-A_N (Shrink QFP, 144-Leads, Body 20x20mm, Pitch 0.5mm, IPC Medium Density)
footprint PRQP0144KB-A_L (Shrink QFP, 144-Leads, Body 20x20mm, Pitch 0.5mm, IPC High Density)
footprint PRQP0144KB-A_M (Shrink QFP, 144-Leads, Body 20x20mm, Pitch 0.5mm, IPC Low Density)
part A pins: 1 PE5/D5 (io), 2 PE6/D6 (io), 3 PE7/D7 (io), 4 PD0/D8 (io), 5 PD1/D9 (io), 6 PD2/D10 (io), 7 PD3/D11 (io), 8 PD4/D12 (io), 9 PD5/D13 (io), 10 PD6/D14 (io), 11 PD7/D15 (io), 13 PC0/A0 (io), 15 PC1/A1 (io), 16 PC2/A2 (io), 17 PC3/A3 (io), 18 PC4/A4 (io), 19 PC5/A5 (io), 20 PC6/A6 (io), 21 PC7/A7 (io), 22 PB0/A8 (io), 23 PB1/A9 (io), 24 PB2/A10 (io), 25 PB3/A11 (io), 26 PB4/A12 (io), 27 PB5/A13 (io), 28 PB6/A14 (io), 29 PB7/A15 (io), 30 PA0/A16 (io), 31 PA1/A17 (io), 32 PA2/A18 (io), 33 PA3/A19 (io), 34 PA4/A20 (io), 35 PA5/A21 (io), 36 PA6/A22 (io), 37 PA7/A23 (io), 38 PH7 (io), 39 PH6 (io), 40 PH5 (io), 41 PH4 (io), 42 PH3 (io), 43 PH2 (io), 44 PH1 (io), 45 PH0 (io), 46 PJ7 (io), 47 PJ6 (io), 48 PJ5 (io), 49 PJ4 (io), 50 PJ3 (io), 51 PJ2 (io), 52 PJ1 (io), 53 PJ0 (io), 55 P97/AN15/DA1 (io), 56 P96/AN14/DA0 (io), 57 P95/AN13 (io), 58 P94/AN12 (io), 59 P93/AN11 (io), 60 P92/AN10 (io), 61 P91/AN9 (io), 62 P90/AN8 (io), 63 P47/AN7 (io), 64 P46/AN6 (io), 65 P45/AN5 (io), 66 P44/AN4 (io), 68 P43/AN3 (io), 69 P42/AN2 (io), 70 P41/AN1 (io), 71 P40/AN0 (io), 72 VREF (in), 74 P50/TXD2 (io), 75 P51/RXD2 (io), 76 P52/SCK2 (io), 77 PF0/~{BREQ}/~{IRQ2} (io), 78 PF1/~{BACK}/BUZZ (io), 79 PF2/~{WAIT} (io), 80 PF3/~{LWR}/~{ADTRG}/~{IRQ3} (io), 81 PF4/~{HWR} (io), 82 PF5/~{RD} (io), 83 PF6/~{AS} (io), 85 PF7/F (io), 87 TEST (in), 89 OSC2 (in), 90 OSC1 (in), 91 NMI (in), 92 MD2 (in), 93 XTAL (in), 95 EXTAL (in), 97 MD0 (in), 98 MD1 (in), 99 ~{STBY} (in), 100 ~{RES} (in), 101 P20/TIOCA3 (io), 102 P21/TIOCB3 (io), 103 P22/TIOCC3 (io), 104 P23/TIOCD3 (io), 105 P24/TIOCA4 (io), 106 P25/TIOCB4 (io), 107 P26/TIOCA5 (io), 108 P27/TIOCB5 (io), 109 P17/TIOCB2/TCLKD (io), 110 P16/TIOCA2/~{IRQ1} (io), 111 P15/TIOCB1/TCLKC (io), 112 P14/TIOCA1/~{IRQ0} (io), 113 P13/TIOCD0/TCLKB (io), 114 P12/TIOCC0/TCLKA (io), 115 P11/TIOCB0 (io), 116 P10/TIOCA0 (io), 119 P37/TXD4 (io), 120 P36/RXD4 (io), 121 P35/SCK1/SCK4/SCL0/~{IRQ5} (io), 122 P34/RXD1/SDA0 (io), 123 P33/TXD1/SCL1 (io), 124 P32/SCK0/SDA1/~{IRQ4} (io), 125 P31/RXD0 (io), 126 P30/TXD0 (io), 127 P77/TXD3 (io), 128 P76/RXD3 (io), 129 P75/TMO3/SCK3 (io), 130 P74/TMO2/~{MRES} (io), 131 P73/TMO1/~{CS7} (io), 132 P72/TMO0/~{CS6} (io), 133 P71/TMRI23/TMCI23/~{CS5} (io), 134 P70/TMRI01/TMCI01/~{CS4} (io), 135 PG4/~{CS0} (io), 136 PG3/~{RX}/~{CS1} (io), 137 PG2/~{TX}/~{CS2} (io), 138 PG1/~{CS3}/~{IRQ7} (io), 139 PG0/~{IRQ6} (io), 140 PE0/D0 (io), 141 PE1/D1 (io), 142 PE2/D2 (io), 143 PE3/D3 (io), 144 PE4/D4 (io)
part B pins: 12 VSS (power), 14 P1VCC (power), 54 VSS (power), 67 AVSS (power), 73 AVCC (power), 84 P1VCC (power), 86 VSS (power), 88 VCL, 94 VSS (power), 96 VCC (power), 117 VSS (power), 118 P2VCC (power)

## HD64F2556FC
designator U?
Flash memory H8S/2500 Series, 2556 Group MCU, 512K ROM, 32K RAM, FP-144J Pkg; Published: 28-Aug-2009; DatasheetVersion: Rev.6.00, Sep-2009; PackageVersion: Sep-2005; PackageReference: PRQP0144KB-A; Publisher: Altium Limited; PackageDescription: 144-Pin Plastic Quad Flat Pack, 20 x 20 x 2.7 mm Body, 0.5 mm Pitch; Code_JEITA: P-QFP144-20x20-0.50; ComponentLink1Description: Manufacturer Link; ComponentLink1URL: http://sg.renesas.com/fmwk.jsp?cnt=h8s_family_landing.jsp&fp=/products/mpumcu/h8s_family/; ComponentLink2Description: Datasheet; ComponentLink2URL: http://documentation.renesas.com/eng/products/mpumcu/rej09b0099_h8s2556.pdf; ComponentLink3Description: Packaging Specification; ComponentLink3URL: http://sg.renesas.com/media/products/common_info/package/pdf/ic/code/prqp0144kb_a.pdf
footprint PRQP0144KB-A_N (Shrink QFP, 144-Leads, Body 20x20mm, Pitch 0.5mm, IPC Medium Density)
footprint PRQP0144KB-A_L (Shrink QFP, 144-Leads, Body 20x20mm, Pitch 0.5mm, IPC High Density)
footprint PRQP0144KB-A_M (Shrink QFP, 144-Leads, Body 20x20mm, Pitch 0.5mm, IPC Low Density)
part A pins: 1 PE5/D5 (io), 2 PE6/D6 (io), 3 PE7/D7 (io), 4 PD0/D8 (io), 5 PD1/D9 (io), 6 PD2/D10 (io), 7 PD3/D11 (io), 8 PD4/D12 (io), 9 PD5/D13 (io), 10 PD6/D14 (io), 11 PD7/D15 (io), 13 PC0/A0 (io), 15 PC1/A1 (io), 16 PC2/A2 (io), 17 PC3/A3 (io), 18 PC4/A4 (io), 19 PC5/A5 (io), 20 PC6/A6 (io), 21 PC7/A7 (io), 22 PB0/A8 (io), 23 PB1/A9 (io), 24 PB2/A10 (io), 25 PB3/A11 (io), 26 PB4/A12 (io), 27 PB5/A13 (io), 28 PB6/A14 (io), 29 PB7/A15 (io), 30 PA0/A16 (io), 31 PA1/A17 (io), 32 PA2/A18 (io), 33 PA3/A19 (io), 34 PA4/A20 (io), 35 PA5/A21 (io), 36 PA6/A22 (io), 37 PA7/A23 (io), 38 PH7 (io), 39 PH6 (io), 40 PH5 (io), 41 PH4 (io), 42 PH3 (io), 43 PH2 (io), 44 PH1 (io), 45 PH0 (io), 46 PJ7 (io), 47 PJ6 (io), 48 PJ5 (io), 49 PJ4 (io), 50 PJ3 (io), 51 PJ2 (io), 52 PJ1 (io), 53 PJ0 (io), 55 P97/AN15/DA1 (io), 56 P96/AN14/DA0 (io), 57 P95/AN13 (io), 58 P94/AN12 (io), 59 P93/AN11 (io), 60 P92/AN10 (io), 61 P91/AN9 (io), 62 P90/AN8 (io), 63 P47/AN7 (io), 64 P46/AN6 (io), 65 P45/AN5 (io), 66 P44/AN4 (io), 68 P43/AN3 (io), 69 P42/AN2 (io), 70 P41/AN1 (io), 71 P40/AN0 (io), 72 VREF (in), 74 P50/TXD2 (io), 75 P51/RXD2 (io), 76 P52/SCK2 (io), 77 PF0/~{BREQ}/~{IRQ2} (io), 78 PF1/~{BACK}/BUZZ (io), 79 PF2/~{WAIT} (io), 80 PF3/~{LWR}/~{ADTRG}/~{IRQ3} (io), 81 PF4/~{HWR} (io), 82 PF5/~{RD} (io), 83 PF6/~{AS} (io), 85 PF7/F (io), 87 TEST (in), 89 OSC2 (in), 90 OSC1 (in), 91 NMI (in), 92 MD2 (in), 93 XTAL (in), 95 EXTAL (in), 97 MD0 (in), 98 MD1 (in), 99 ~{STBY} (in), 100 ~{RES} (in), 101 P20/TIOCA3 (io), 102 P21/TIOCB3 (io), 103 P22/TIOCC3 (io), 104 P23/TIOCD3 (io), 105 P24/TIOCA4 (io), 106 P25/TIOCB4 (io), 107 P26/TIOCA5 (io), 108 P27/TIOCB5 (io), 109 P17/TIOCB2/TCLKD (io), 110 P16/TIOCA2/~{IRQ1} (io), 111 P15/TIOCB1/TCLKC (io), 112 P14/TIOCA1/~{IRQ0} (io), 113 P13/TIOCD0/TCLKB (io), 114 P12/TIOCC0/TCLKA (io), 115 P11/TIOCB0 (io), 116 P10/TIOCA0 (io), 119 P37/TXD4 (io), 120 P36/RXD4 (io), 121 P35/SCK1/SCK4/SCL0/~{IRQ5} (io), 122 P34/RXD1/SDA0 (io), 123 P33/TXD1/SCL1 (io), 124 P32/SCK0/SDA1/~{IRQ4} (io), 125 P31/RXD0 (io), 126 P30/TXD0 (io), 127 P77/TXD3 (io), 128 P76/RXD3 (io), 129 P75/TMO3/SCK3 (io), 130 P74/TMO2/~{MRES} (io), 131 P73/TMO1/~{CS7} (io), 132 P72/TMO0/~{CS6} (io), 133 P71/TMRI23/TMCI23/~{CS5} (io), 134 P70/TMRI01/TMCI01/~{CS4} (io), 135 PG4/~{CS0} (io), 136 HRXD (in), 137 HTXD (out), 138 PG1/~{CS3}/~{IRQ7} (io), 139 PG0/~{IRQ6} (io), 140 PE0/D0 (io), 141 PE1/D1 (io), 142 PE2/D2 (io), 143 PE3/D3 (io), 144 PE4/D4 (io)
part B pins: 12 VSS (power), 14 P1VCC (power), 54 VSS (power), 67 AVSS (power), 73 AVCC (power), 84 P1VCC (power), 86 VSS (power), 88 VCL, 94 VSS (power), 96 VCC (power), 117 VSS (power), 118 P2VCC (power)

## HD64F2602FA
designator U?
Flash memory H8S/2600 Series, 2602 Group MCU, 128K ROM, 4K RAM, FP-80Q Pkg; Published: 28-Aug-2009; DatasheetVersion: Rev.1.00, Jan-2008; PackageVersion: Sep-2005; PackageReference: PRQP0080JD-A; Publisher: Altium Limited; PackageDescription: 80-Pin Plastic Quad Flat Pack, 14 x 14 x 2.7 mm Body, 0.65 mm Pitch; Code_JEITA: P-QFP80-14x14-0.65; Code_IPC: QFP65P1720X1720-80; ComponentLink1Description: Manufacturer Link; ComponentLink1URL: http://sg.renesas.com/fmwk.jsp?cnt=h8s_family_landing.jsp&fp=/products/mpumcu/h8s_family/; ComponentLink2Description: Datasheet; ComponentLink2URL: http://documentation.renesas.com/eng/products/mpumcu/rej09b0425_h8s2602hm.pdf; ComponentLink3Description: Packaging Specification; ComponentLink3URL: http://sg.renesas.com/media/products/common_info/package/pdf/ic/code/prqp0080jd_a.pdf
footprint PRQP0080JD-A_N (QFP, 80-Leads, Body 14x14mm, Pitch 0.65mm, IPC Medium Density)
footprint PRQP0080JD-A_L (QFP, 80-Leads, Body 14x14mm, Pitch 0.65mm, IPC High Density)
footprint PRQP0080JD-A_M (QFP, 80-Leads, Body 14x14mm, Pitch 0.65mm, IPC Low Density)
part A pins: 1 P13/PO11/TIOCD0/TCLKB (io), 2 P14/PO12/TIOCA1/~{IRQ0} (io), 3 P15/PO13/TIOCB1/TCLKC (io), 4 P16/PO14/TIOCA2/~{IRQ1} (io), 5 P17/PO15/TIOCB2/TCLKD (io), 6 NC, 7 NC, 8 PF0/~{IRQ2} (io), 9 PF1 (io), 10 PF2 (io), 11 PF3/~{ADTRG}/~{IRQ3} (io), 12 PF4 (io), 13 PF5 (io), 14 PF6 (io), 15 PF7/F (io), 16 PC0/TXD0 (io), 17 PC1/RXD0 (io), 18 PC2/SCK0/~{IRQ4} (io), 19 PC3/TXD1 (io), 20 PC4/RXD1 (io), 21 PC5/SCK1/~{IRQ5} (io), 22 PC6 (io), 23 PC7 (io), 24 PB0/TIOCA3 (io), 26 PB1/TIOCB3 (io), 28 PB2/TIOCC3 (io), 29 PB3/TIOCD3 (io), 30 PB4/TIOCA4 (io), 31 PB5/TIOCB4 (io), 32 PB6/TIOCA5 (io), 33 PB7/TIOCB5 (io), 34 PA0 (io), 35 PA1/TXD2 (io), 36 PA2/RXD2 (io), 37 PA3/SCK2 (io), 38 MD0 (in), 39 MD1 (in), 40 MD2 (in), 41 ~{RES} (in), 42 PLLCAP, 43 NMI (in), 44 PLLVCL, 45 ~{STBY} (in), 47 XTAL (in), 49 EXTAL (in), 51 FWE/NC, 53 PD7 (io), 54 PD6 (io), 55 PD5 (io), 56 PD4 (io), 57 PD3 (io), 58 PD2 (io), 59 PD1 (io), 60 PD0 (io), 62 P93/AN11 (io), 63 P92/AN10 (io), 64 P91/AN9 (io), 65 P90/AN8 (io), 66 P47/AN7 (io), 67 P46/AN6 (io), 68 P45/AN5 (io), 69 P44/AN4 (io), 70 P43/AN3 (io), 71 P42/AN2 (io), 72 P41/AN1 (io), 73 P40/AN0 (io), 75 P10/PO8/TIOCA0 (io), 77 P11/PO9/TIOCB0 (io), 79 P12/PO10/TIOCC0/TCLKA (io)
part B pins: 25 VSS (power), 27 VCC (power), 46 PLLVSS (power), 48 VCC (power), 50 VSS (power), 52 VCL, 61 AVCC (power), 74 AVSS (power), 76 VCC (power), 78 VSS (power), 80 VCL

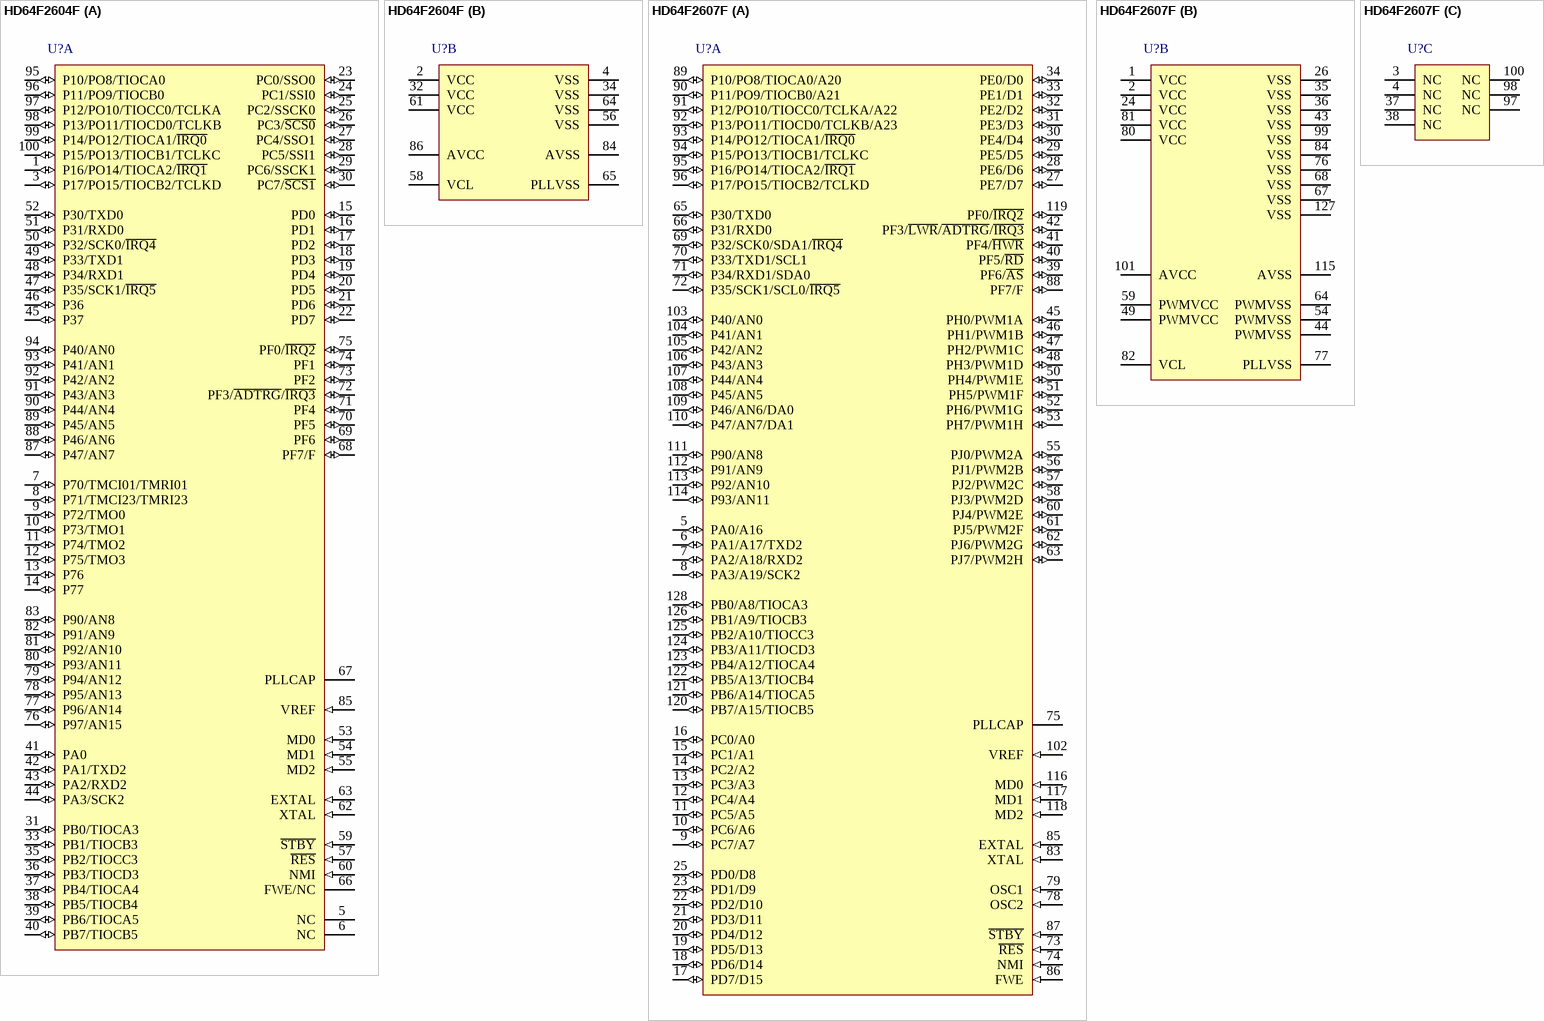
[diagram p75: symbols HD64F2604F to HD64F2607F]

## HD64F2604F
designator U?
Flash memory H8S/2600 Series, 2604 Group MCU, 128K ROM, 8K RAM, FP-100M Pkg; Published: 28-Aug-2009; DatasheetVersion: Rev.1.00, Jan-2008; PackageVersion: Sep-2009; PackageReference: PRQP0100KB-A; Publisher: Altium Limited; PackageDescription: 100-Pin Plastic Quad Flat Pack, 14 x 14 x 2.7 mm Body, 0.5 mm Pitch; Code_JEITA: P-QFP100-14x14-0.50; ComponentLink1Description: Manufacturer Link; ComponentLink1URL: http://sg.renesas.com/fmwk.jsp?cnt=h8s_family_landing.jsp&fp=/products/mpumcu/h8s_family/; ComponentLink2Description: Datasheet; ComponentLink2URL: http://documentation.renesas.com/eng/products/mpumcu/rej09b0426_h8s2604hm.pdf; ComponentLink3Description: Packaging Specification; ComponentLink3URL: http://sg.renesas.com/media/products/common_info/package/pdf/ic/code/prqp0100kb_a.pdf
footprint PRQP0100KB-A_N (Shrink QFP, 100-Leads, Body 14x14mm, Pitch 0.5mm, IPC Medium Density)
footprint PRQP0100KB-A_L (Shrink QFP, 100-Leads, Body 14x14mm, Pitch 0.5mm, IPC High Density)
footprint PRQP0100KB-A_M (Shrink QFP, 100-Leads, Body 14x14mm, Pitch 0.5mm, IPC Low Density)
part A pins: 1 P16/PO14/TIOCA2/~{IRQ1} (io), 3 P17/PO15/TIOCB2/TCLKD (io), 5 NC, 6 NC, 7 P70/TMCI01/TMRI01 (io), 8 P71/TMCI23/TMRI23 (io), 9 P72/TMO0 (io), 10 P73/TMO1 (io), 11 P74/TMO2 (io), 12 P75/TMO3 (io), 13 P76 (io), 14 P77 (io), 15 PD0 (io), 16 PD1 (io), 17 PD2 (io), 18 PD3 (io), 19 PD4 (io), 20 PD5 (io), 21 PD6 (io), 22 PD7 (io), 23 PC0/SSO0 (io), 24 PC1/SSI0 (io), 25 PC2/SSCK0 (io), 26 PC3/~{SCS0} (io), 27 PC4/SSO1 (io), 28 PC5/SSI1 (io), 29 PC6/SSCK1 (io), 30 PC7/~{SCS1} (io), 31 PB0/TIOCA3 (io), 33 PB1/TIOCB3 (io), 35 PB2/TIOCC3 (io), 36 PB3/TIOCD3 (io), 37 PB4/TIOCA4 (io), 38 PB5/TIOCB4 (io), 39 PB6/TIOCA5 (io), 40 PB7/TIOCB5 (io), 41 PA0 (io), 42 PA1/TXD2 (io), 43 PA2/RXD2 (io), 44 PA3/SCK2 (io), 45 P37 (io), 46 P36 (io), 47 P35/SCK1/~{IRQ5} (io), 48 P34/RXD1 (io), 49 P33/TXD1 (io), 50 P32/SCK0/~{IRQ4} (io), 51 P31/RXD0 (io), 52 P30/TXD0 (io), 53 MD0 (in), 54 MD1 (in), 55 MD2 (in), 57 ~{RES} (in), 59 ~{STBY} (in), 60 NMI (in), 62 XTAL (in), 63 EXTAL (in), 66 FWE/NC, 67 PLLCAP, 68 PF7/F (io), 69 PF6 (io), 70 PF5 (io), 71 PF4 (io), 72 PF3/~{ADTRG}/~{IRQ3} (io), 73 PF2 (io), 74 PF1 (io), 75 PF0/~{IRQ2} (io), 76 P97/AN15 (io), 77 P96/AN14 (io), 78 P95/AN13 (io), 79 P94/AN12 (io), 80 P93/AN11 (io), 81 P92/AN10 (io), 82 P91/AN9 (io), 83 P90/AN8 (io), 85 VREF (in), 87 P47/AN7 (io), 88 P46/AN6 (io), 89 P45/AN5 (io), 90 P44/AN4 (io), 91 P43/AN3 (io), 92 P42/AN2 (io), 93 P41/AN1 (io), 94 P40/AN0 (io), 95 P10/PO8/TIOCA0 (io), 96 P11/PO9/TIOCB0 (io), 97 P12/PO10/TIOCC0/TCLKA (io), 98 P13/PO11/TIOCD0/TCLKB (io), 99 P14/PO12/TIOCA1/~{IRQ0} (io), 100 P15/PO13/TIOCB1/TCLKC (io)
part B pins: 2 VCC (power), 4 VSS (power), 32 VCC (power), 34 VSS (power), 56 VSS (power), 58 VCL, 61 VCC (power), 64 VSS (power), 65 PLLVSS (power), 84 AVSS (power), 86 AVCC (power)

## HD64F2607F
designator U?
Flash memory H8S/2600 Series, 2607 Group MCU, 384K ROM, 16K RAM, FP-128B Pkg; Published: 28-Aug-2009; DatasheetVersion: Rev.1.00, Jan-2008; PackageVersion: Sep-2005; PackageReference: PRQP0128KB-A; Publisher: Altium Limited; PackageDescription: 128-Pin Plastic Quad Flat Pack, 20 x 14 x 2.7 mm Body, 0.5 mm Pitch; Code_JEITA: P-QFP128-14x20-0.50; Code_IPC: SQFP50P1600X2200-128; ComponentLink1Description: Manufacturer Link; ComponentLink1URL: http://sg.renesas.com/fmwk.jsp?cnt=h8s_family_landing.jsp&fp=/products/mpumcu/h8s_family/; ComponentLink2Description: Datasheet; ComponentLink2URL: http://documentation.renesas.com/eng/products/mpumcu/rej09b0427_h8s2607hm.pdf; ComponentLink3Description: Packaging Specification; ComponentLink3URL: http://sg.renesas.com/media/products/common_info/package/pdf/ic/code/prqp0128kb_a.pdf
footprint PRQP0128KB-A_N (Shrink QFP, 128-Leads, Body 20x14 mm, Pitch 0.5mm, IPC Medium Density)
footprint PRQP0128KB-A_L (Shrink QFP, 128-Leads, Body 20x14 mm, Pitch 0.5mm, IPC High Density)
footprint PRQP0128KB-A_M (Shrink QFP, 128-Leads, Body 20x14 mm, Pitch 0.5mm, IPC Low Density)
part A pins: 5 PA0/A16 (io), 6 PA1/A17/TXD2 (io), 7 PA2/A18/RXD2 (io), 8 PA3/A19/SCK2 (io), 9 PC7/A7 (io), 10 PC6/A6 (io), 11 PC5/A5 (io), 12 PC4/A4 (io), 13 PC3/A3 (io), 14 PC2/A2 (io), 15 PC1/A1 (io), 16 PC0/A0 (io), 17 PD7/D15 (io), 18 PD6/D14 (io), 19 PD5/D13 (io), 20 PD4/D12 (io), 21 PD3/D11 (io), 22 PD2/D10 (io), 23 PD1/D9 (io), 25 PD0/D8 (io), 27 PE7/D7 (io), 28 PE6/D6 (io), 29 PE5/D5 (io), 30 PE4/D4 (io), 31 PE3/D3 (io), 32 PE2/D2 (io), 33 PE1/D1 (io), 34 PE0/D0 (io), 39 PF6/~{AS} (io), 40 PF5/~{RD} (io), 41 PF4/~{HWR} (io), 42 PF3/~{LWR}/~{ADTRG}/~{IRQ3} (io), 45 PH0/PWM1A (io), 46 PH1/PWM1B (io), 47 PH2/PWM1C (io), 48 PH3/PWM1D (io), 50 PH4/PWM1E (io), 51 PH5/PWM1F (io), 52 PH6/PWM1G (io), 53 PH7/PWM1H (io), 55 PJ0/PWM2A (io), 56 PJ1/PWM2B (io), 57 PJ2/PWM2C (io), 58 PJ3/PWM2D (io), 60 PJ4/PWM2E (io), 61 PJ5/PWM2F (io), 62 PJ6/PWM2G (io), 63 PJ7/PWM2H (io), 65 P30/TXD0 (io), 66 P31/RXD0 (io), 69 P32/SCK0/SDA1/~{IRQ4} (io), 70 P33/TXD1/SCL1 (io), 71 P34/RXD1/SDA0 (io), 72 P35/SCK1/SCL0/~{IRQ5} (io), 73 ~{RES} (in), 74 NMI (in), 75 PLLCAP, 78 OSC2 (in), 79 OSC1 (in), 83 XTAL (in), 85 EXTAL (in), 86 FWE (in), 87 ~{STBY} (in), 88 PF7/F (io), 89 P10/PO8/TIOCA0/A20 (io), 90 P11/PO9/TIOCB0/A21 (io), 91 P12/PO10/TIOCC0/TCLKA/A22 (io), 92 P13/PO11/TIOCD0/TCLKB/A23 (io), 93 P14/PO12/TIOCA1/~{IRQ0} (io), 94 P15/PO13/TIOCB1/TCLKC (io), 95 P16/PO14/TIOCA2/~{IRQ1} (io), 96 P17/PO15/TIOCB2/TCLKD (io), 102 VREF (in), 103 P40/AN0 (io), 104 P41/AN1 (io), 105 P42/AN2 (io), 106 P43/AN3 (io), 107 P44/AN4 (io), 108 P45/AN5 (io), 109 P46/AN6/DA0 (io), 110 P47/AN7/DA1 (io), 111 P90/AN8 (io), 112 P91/AN9 (io), 113 P92/AN10 (io), 114 P93/AN11 (io), 116 MD0 (in), 117 MD1 (in), 118 MD2 (in), 119 PF0/~{IRQ2} (io), 120 PB7/A15/TIOCB5 (io), 121 PB6/A14/TIOCA5 (io), 122 PB5/A13/TIOCB4 (io), 123 PB4/A12/TIOCA4 (io), 124 PB3/A11/TIOCD3 (io), 125 PB2/A10/TIOCC3 (io), 126 PB1/A9/TIOCB3 (io), 128 PB0/A8/TIOCA3 (io)
part B pins: 1 VCC (power), 2 VCC (power), 24 VCC (power), 26 VSS (power), 35 VSS (power), 36 VSS (power), 43 VSS (power), 44 PWMVSS (power), 49 PWMVCC (power), 54 PWMVSS (power), 59 PWMVCC (power), 64 PWMVSS (power), 67 VSS (power), 68 VSS (power), 76 VSS (power), 77 PLLVSS (power), 80 VCC (power), 81 VCC (power), 82 VCL, 84 VSS (power), 99 VSS (power), 101 AVCC (power), 115 AVSS (power), 127 VSS (power)
part C pins: 3 NC, 4 NC, 37 NC, 38 NC, 97 NC, 98 NC, 100 NC

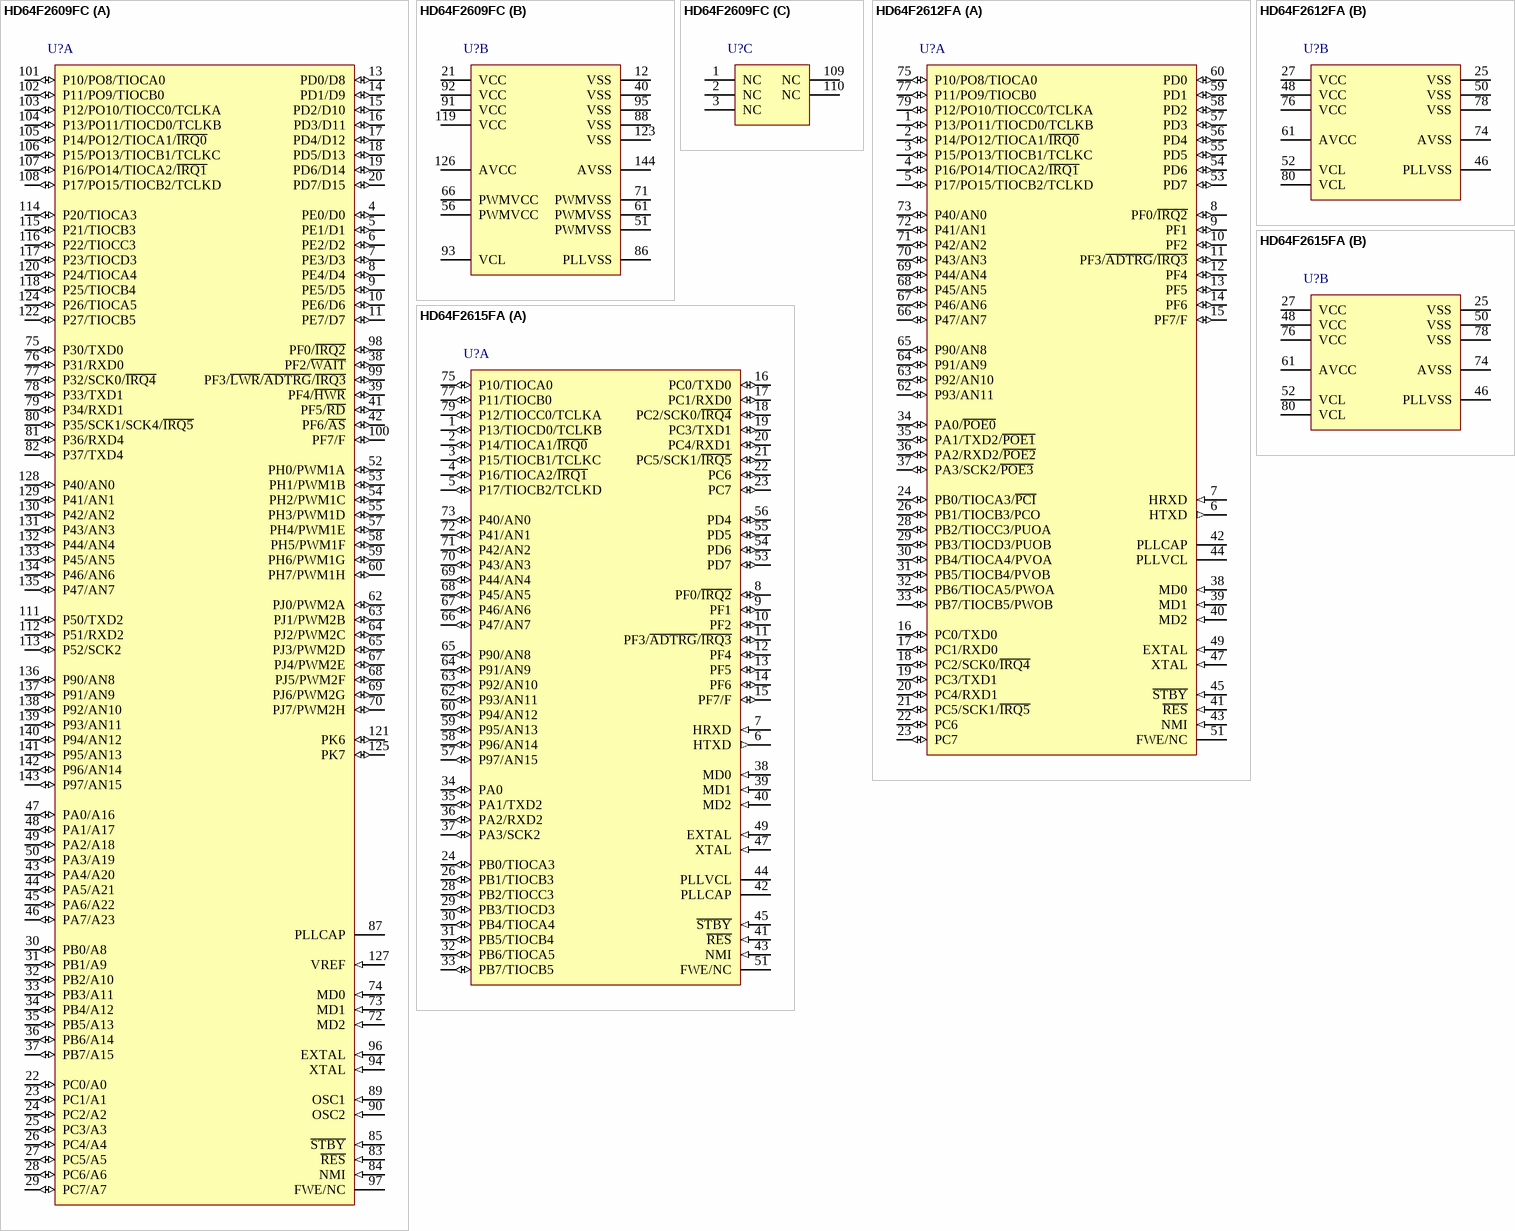
[diagram p76: symbols HD64F2609FC to HD64F2615FA]

## HD64F2609FC
designator U?
Flash memory H8S/2600 Series, 2609 Group MCU, 256K ROM, 8K RAM, FP-144G Pkg; Published: 28-Aug-2009; DatasheetVersion: Rev.1.00, Jan-2008; PackageVersion: Sep-2005; PackageReference: PRQP0144KA-A; Publisher: Altium Limited; PackageDescription: 144-Pin Plastic Quad Flat Pack, 20 x 20 x 2.7 mm Body, 0.5 mm Pitch; Code_JEITA: P-QFP144-20x20-0.50; ComponentLink1Description: Manufacturer Link; ComponentLink1URL: http://sg.renesas.com/fmwk.jsp?cnt=h8s_family_landing.jsp&fp=/products/mpumcu/h8s_family/; ComponentLink2Description: Datasheet; ComponentLink2URL: http://documentation.renesas.com/eng/products/mpumcu/rej09b0428_h8s2609hm.pdf; ComponentLink3Description: Packaging Specification; ComponentLink3URL: http://sg.renesas.com/media/products/common_info/package/pdf/ic/code/prqp0144ka_a.pdf
footprint PRQP0144KA-A_N (Shrink QFP, 144-Leads, Body 20x20mm, Pitch 0.5mm, IPC Medium Density)
footprint PRQP0144KA-A_L (Shrink QFP, 144-Leads, Body 20x20mm, Pitch 0.5mm, IPC High Density)
footprint PRQP0144KA-A_M (Shrink QFP, 144-Leads, Body 20x20mm, Pitch 0.5mm, IPC Low Density)
part A pins: 4 PE0/D0 (io), 5 PE1/D1 (io), 6 PE2/D2 (io), 7 PE3/D3 (io), 8 PE4/D4 (io), 9 PE5/D5 (io), 10 PE6/D6 (io), 11 PE7/D7 (io), 13 PD0/D8 (io), 14 PD1/D9 (io), 15 PD2/D10 (io), 16 PD3/D11 (io), 17 PD4/D12 (io), 18 PD5/D13 (io), 19 PD6/D14 (io), 20 PD7/D15 (io), 22 PC0/A0 (io), 23 PC1/A1 (io), 24 PC2/A2 (io), 25 PC3/A3 (io), 26 PC4/A4 (io), 27 PC5/A5 (io), 28 PC6/A6 (io), 29 PC7/A7 (io), 30 PB0/A8 (io), 31 PB1/A9 (io), 32 PB2/A10 (io), 33 PB3/A11 (io), 34 PB4/A12 (io), 35 PB5/A13 (io), 36 PB6/A14 (io), 37 PB7/A15 (io), 38 PF2/~{WAIT} (io), 39 PF4/~{HWR} (io), 41 PF5/~{RD} (io), 42 PF6/~{AS} (io), 43 PA4/A20 (io), 44 PA5/A21 (io), 45 PA6/A22 (io), 46 PA7/A23 (io), 47 PA0/A16 (io), 48 PA1/A17 (io), 49 PA2/A18 (io), 50 PA3/A19 (io), 52 PH0/PWM1A (io), 53 PH1/PWM1B (io), 54 PH2/PWM1C (io), 55 PH3/PWM1D (io), 57 PH4/PWM1E (io), 58 PH5/PWM1F (io), 59 PH6/PWM1G (io), 60 PH7/PWM1H (io), 62 PJ0/PWM2A (io), 63 PJ1/PWM2B (io), 64 PJ2/PWM2C (io), 65 PJ3/PWM2D (io), 67 PJ4/PWM2E (io), 68 PJ5/PWM2F (io), 69 PJ6/PWM2G (io), 70 PJ7/PWM2H (io), 72 MD2 (in), 73 MD1 (in), 74 MD0 (in), 75 P30/TXD0 (io), 76 P31/RXD0 (io), 77 P32/SCK0/~{IRQ4} (io), 78 P33/TXD1 (io), 79 P34/RXD1 (io), 80 P35/SCK1/SCK4/~{IRQ5} (io), 81 P36/RXD4 (io), 82 P37/TXD4 (io), 83 ~{RES} (in), 84 NMI (in), 85 ~{STBY} (in), 87 PLLCAP, 89 OSC1 (in), 90 OSC2 (in), 94 XTAL (in), 96 EXTAL (in), 97 FWE/NC, 98 PF0/~{IRQ2} (io), 99 PF3/~{LWR}/~{ADTRG}/~{IRQ3} (io), 100 PF7/F (io), 101 P10/PO8/TIOCA0 (io), 102 P11/PO9/TIOCB0 (io), 103 P12/PO10/TIOCC0/TCLKA (io), 104 P13/PO11/TIOCD0/TCLKB (io), 105 P14/PO12/TIOCA1/~{IRQ0} (io), 106 P15/PO13/TIOCB1/TCLKC (io), 107 P16/PO14/TIOCA2/~{IRQ1} (io), 108 P17/PO15/TIOCB2/TCLKD (io), 111 P50/TXD2 (io), 112 P51/RXD2 (io), 113 P52/SCK2 (io), 114 P20/TIOCA3 (io), 115 P21/TIOCB3 (io), 116 P22/TIOCC3 (io), 117 P23/TIOCD3 (io), 118 P25/TIOCB4 (io), 120 P24/TIOCA4 (io), 121 PK6 (io), 122 P27/TIOCB5 (io), 124 P26/TIOCA5 (io), 125 PK7 (io), 127 VREF (in), 128 P40/AN0 (io), 129 P41/AN1 (io), 130 P42/AN2 (io), 131 P43/AN3 (io), 132 P44/AN4 (io), 133 P45/AN5 (io), 134 P46/AN6 (io), 135 P47/AN7 (io), 136 P90/AN8 (io), 137 P91/AN9 (io), 138 P92/AN10 (io), 139 P93/AN11 (io), 140 P94/AN12 (io), 141 P95/AN13 (io), 142 P96/AN14 (io), 143 P97/AN15 (io)
part B pins: 12 VSS (power), 21 VCC (power), 40 VSS (power), 51 PWMVSS (power), 56 PWMVCC (power), 61 PWMVSS (power), 66 PWMVCC (power), 71 PWMVSS (power), 86 PLLVSS (power), 88 VSS (power), 91 VCC (power), 92 VCC (power), 93 VCL, 95 VSS (power), 119 VCC (power), 123 VSS (power), 126 AVCC (power), 144 AVSS (power)
part C pins: 1 NC, 2 NC, 3 NC, 109 NC, 110 NC

## HD64F2612FA
designator U?
Flash memory H8S/2600 Series, 2612 Group MCU, 128K ROM, 4K RAM, FP-80Q Pkg; Published: 28-Aug-2009; DatasheetVersion: Rev.7.00, Sep-2009; PackageVersion: Sep-2005; PackageReference: PRQP0080JD-A; Publisher: Altium Limited; PackageDescription: 80-Pin Plastic Quad Flat Pack, 14 x 14 x 2.7 mm Body, 0.65 mm Pitch; Code_JEITA: P-QFP80-14x14-0.65; Code_IPC: QFP65P1720X1720-80; ComponentLink1Description: Manufacturer Link; ComponentLink1URL: http://sg.renesas.com/fmwk.jsp?cnt=h8s_family_landing.jsp&fp=/products/mpumcu/h8s_family/; ComponentLink2Description: Datasheet; ComponentLink2URL: http://documentation.renesas.com/eng/products/mpumcu/rej09b0211_h8s2612.pdf; ComponentLink3Description: Packaging Specification; ComponentLink3URL: http://sg.renesas.com/media/products/common_info/package/pdf/ic/code/prqp0080jd_a.pdf
footprint PRQP0080JD-A_N (QFP, 80-Leads, Body 14x14mm, Pitch 0.65mm, IPC Medium Density)
footprint PRQP0080JD-A_L (QFP, 80-Leads, Body 14x14mm, Pitch 0.65mm, IPC High Density)
footprint PRQP0080JD-A_M (QFP, 80-Leads, Body 14x14mm, Pitch 0.65mm, IPC Low Density)
part A pins: 1 P13/PO11/TIOCD0/TCLKB (io), 2 P14/PO12/TIOCA1/~{IRQ0} (io), 3 P15/PO13/TIOCB1/TCLKC (io), 4 P16/PO14/TIOCA2/~{IRQ1} (io), 5 P17/PO15/TIOCB2/TCLKD (io), 6 HTXD (out), 7 HRXD (in), 8 PF0/~{IRQ2} (io), 9 PF1 (io), 10 PF2 (io), 11 PF3/~{ADTRG}/~{IRQ3} (io), 12 PF4 (io), 13 PF5 (io), 14 PF6 (io), 15 PF7/F (io), 16 PC0/TXD0 (io), 17 PC1/RXD0 (io), 18 PC2/SCK0/~{IRQ4} (io), 19 PC3/TXD1 (io), 20 PC4/RXD1 (io), 21 PC5/SCK1/~{IRQ5} (io), 22 PC6 (io), 23 PC7 (io), 24 PB0/TIOCA3/~{PCI} (io), 26 PB1/TIOCB3/PCO (io), 28 PB2/TIOCC3/PUOA (io), 29 PB3/TIOCD3/PUOB (io), 30 PB4/TIOCA4/PVOA (io), 31 PB5/TIOCB4/PVOB (io), 32 PB6/TIOCA5/PWOA (io), 33 PB7/TIOCB5/PWOB (io), 34 PA0/~{POE0} (io), 35 PA1/TXD2/~{POE1} (io), 36 PA2/RXD2/~{POE2} (io), 37 PA3/SCK2/~{POE3} (io), 38 MD0 (in), 39 MD1 (in), 40 MD2 (in), 41 ~{RES} (in), 42 PLLCAP, 43 NMI (in), 44 PLLVCL, 45 ~{STBY} (in), 47 XTAL (in), 49 EXTAL (in), 51 FWE/NC, 53 PD7 (io), 54 PD6 (io), 55 PD5 (io), 56 PD4 (io), 57 PD3 (io), 58 PD2 (io), 59 PD1 (io), 60 PD0 (io), 62 P93/AN11 (io), 63 P92/AN10 (io), 64 P91/AN9 (io), 65 P90/AN8 (io), 66 P47/AN7 (io), 67 P46/AN6 (io), 68 P45/AN5 (io), 69 P44/AN4 (io), 70 P43/AN3 (io), 71 P42/AN2 (io), 72 P41/AN1 (io), 73 P40/AN0 (io), 75 P10/PO8/TIOCA0 (io), 77 P11/PO9/TIOCB0 (io), 79 P12/PO10/TIOCC0/TCLKA (io)
part B pins: 25 VSS (power), 27 VCC (power), 46 PLLVSS (power), 48 VCC (power), 50 VSS (power), 52 VCL, 61 AVCC (power), 74 AVSS (power), 76 VCC (power), 78 VSS (power), 80 VCL

## HD64F2615FA
designator U?
Flash memory H8S/2600 Series, 2615 Group MCU, 64K ROM, 4K RAM, FP-80Q Pkg; Published: 28-Aug-2009; DatasheetVersion: Rev.2.00, May-2004; PackageVersion: Sep-2005; PackageReference: PRQP0080JD-A; Publisher: Altium Limited; PackageDescription: 80-Pin Plastic Quad Flat Pack, 14 x 14 x 2.7 mm Body, 0.65 mm Pitch; Code_JEITA: P-QFP80-14x14-0.65; Code_IPC: QFP65P1720X1720-80; ComponentLink1Description: Manufacturer Link; ComponentLink1URL: http://sg.renesas.com/fmwk.jsp?cnt=h8s_family_landing.jsp&fp=/products/mpumcu/h8s_family/; ComponentLink2Description: Datasheet; ComponentLink2URL: http://documentation.renesas.com/eng/products/mpumcu/rej09b0072_h8s2615.pdf; ComponentLink3Description: Packaging Specification; ComponentLink3URL: http://sg.renesas.com/media/products/common_info/package/pdf/ic/code/prqp0080jd_a.pdf
footprint PRQP0080JD-A_N (QFP, 80-Leads, Body 14x14mm, Pitch 0.65mm, IPC Medium Density)
footprint PRQP0080JD-A_L (QFP, 80-Leads, Body 14x14mm, Pitch 0.65mm, IPC High Density)
footprint PRQP0080JD-A_M (QFP, 80-Leads, Body 14x14mm, Pitch 0.65mm, IPC Low Density)
part A pins: 1 P13/TIOCD0/TCLKB (io), 2 P14/TIOCA1/~{IRQ0} (io), 3 P15/TIOCB1/TCLKC (io), 4 P16/TIOCA2/~{IRQ1} (io), 5 P17/TIOCB2/TCLKD (io), 6 HTXD (out), 7 HRXD (in), 8 PF0/~{IRQ2} (io), 9 PF1 (io), 10 PF2 (io), 11 PF3/~{ADTRG}/~{IRQ3} (io), 12 PF4 (io), 13 PF5 (io), 14 PF6 (io), 15 PF7/F (io), 16 PC0/TXD0 (io), 17 PC1/RXD0 (io), 18 PC2/SCK0/~{IRQ4} (io), 19 PC3/TXD1 (io), 20 PC4/RXD1 (io), 21 PC5/SCK1/~{IRQ5} (io), 22 PC6 (io), 23 PC7 (io), 24 PB0/TIOCA3 (io), 26 PB1/TIOCB3 (io), 28 PB2/TIOCC3 (io), 29 PB3/TIOCD3 (io), 30 PB4/TIOCA4 (io), 31 PB5/TIOCB4 (io), 32 PB6/TIOCA5 (io), 33 PB7/TIOCB5 (io), 34 PA0 (io), 35 PA1/TXD2 (io), 36 PA2/RXD2 (io), 37 PA3/SCK2 (io), 38 MD0 (in), 39 MD1 (in), 40 MD2 (in), 41 ~{RES} (in), 42 PLLCAP, 43 NMI (in), 44 PLLVCL, 45 ~{STBY} (in), 47 XTAL (in), 49 EXTAL (in), 51 FWE/NC, 53 PD7 (io), 54 PD6 (io), 55 PD5 (io), 56 PD4 (io), 57 P97/AN15 (io), 58 P96/AN14 (io), 59 P95/AN13 (io), 60 P94/AN12 (io), 62 P93/AN11 (io), 63 P92/AN10 (io), 64 P91/AN9 (io), 65 P90/AN8 (io), 66 P47/AN7 (io), 67 P46/AN6 (io), 68 P45/AN5 (io), 69 P44/AN4 (io), 70 P43/AN3 (io), 71 P42/AN2 (io), 72 P41/AN1 (io), 73 P40/AN0 (io), 75 P10/TIOCA0 (io), 77 P11/TIOCB0 (io), 79 P12/TIOCC0/TCLKA (io)
part B pins: 25 VSS (power), 27 VCC (power), 46 PLLVSS (power), 48 VCC (power), 50 VSS (power), 52 VCL, 61 AVCC (power), 74 AVSS (power), 76 VCC (power), 78 VSS (power), 80 VCL

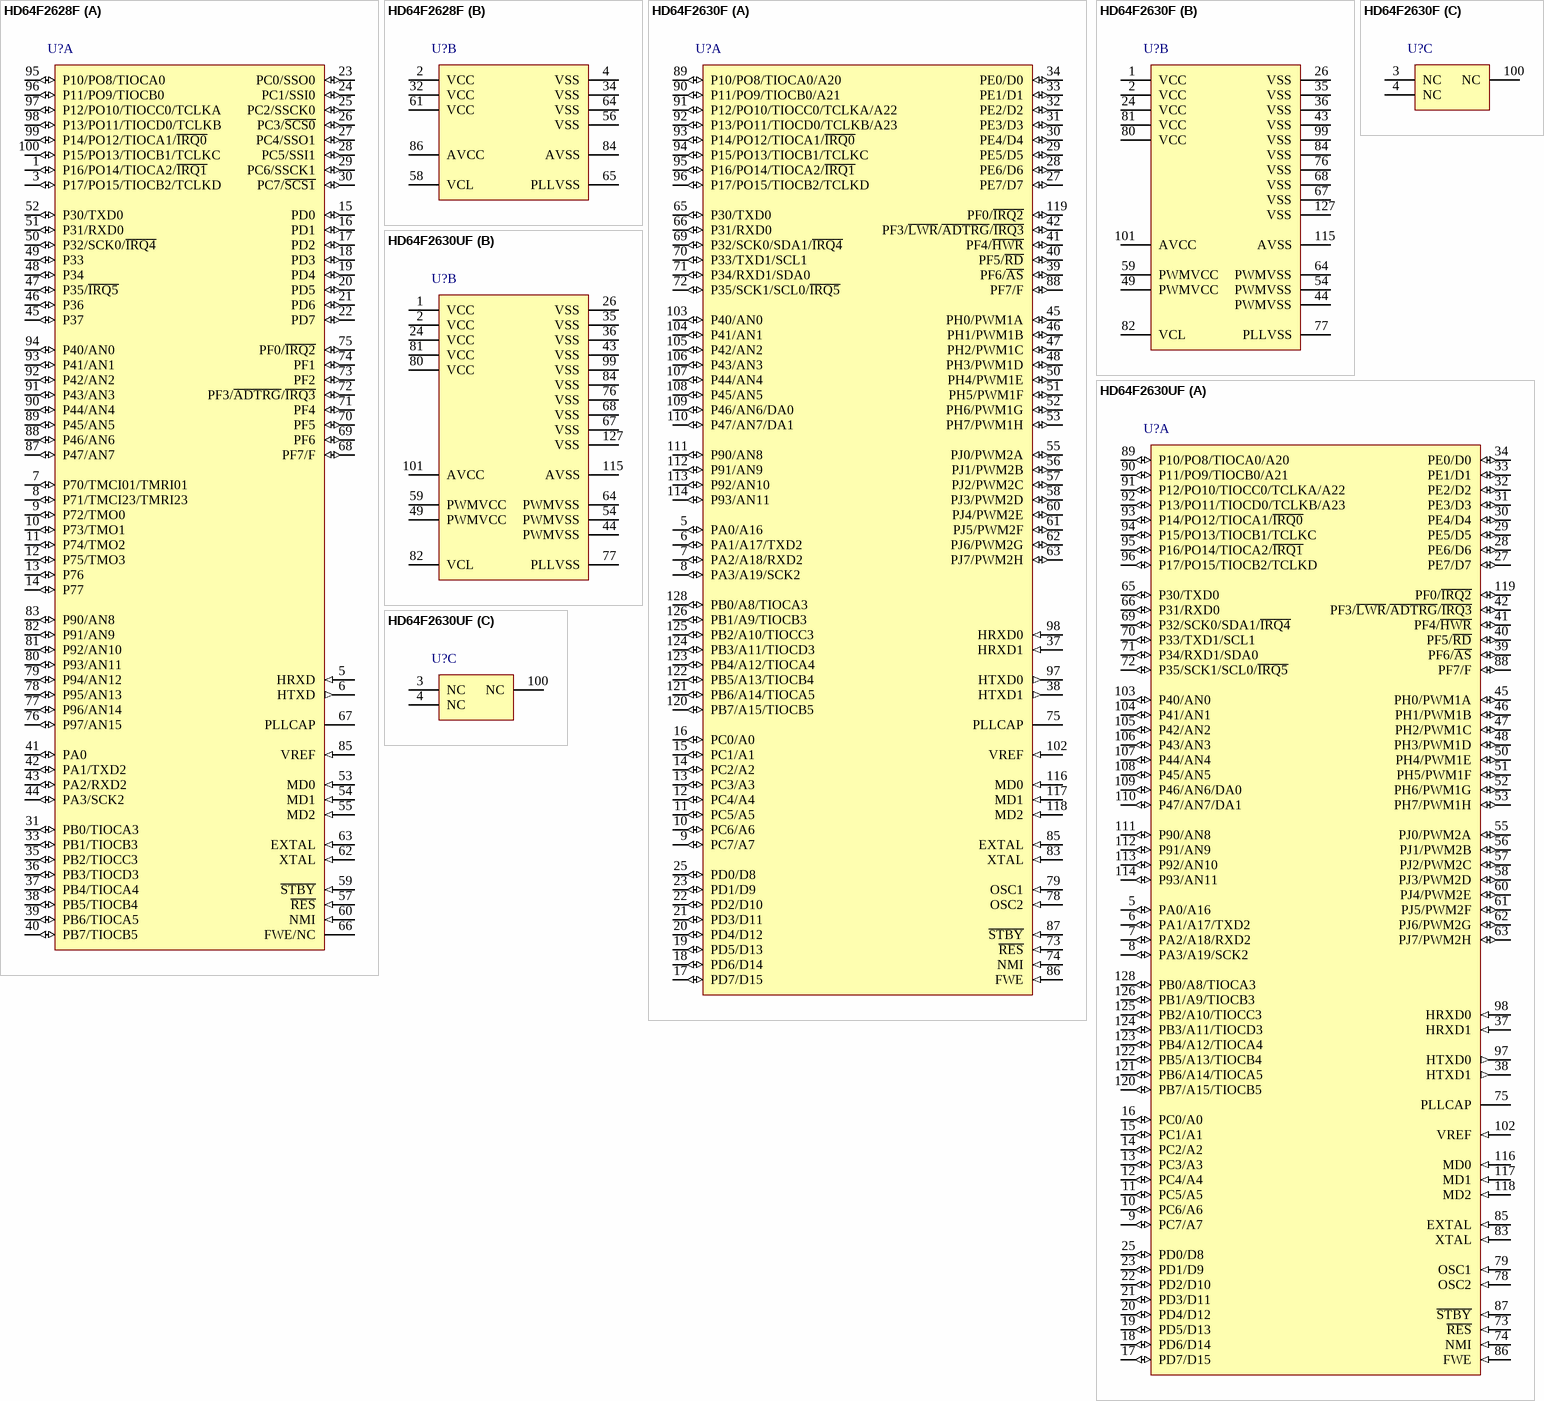
[diagram p77: symbols HD64F2628F to HD64F2630UF]